# Altium integrated library relay.IntLib: 425 symbols (part 2 of 4)
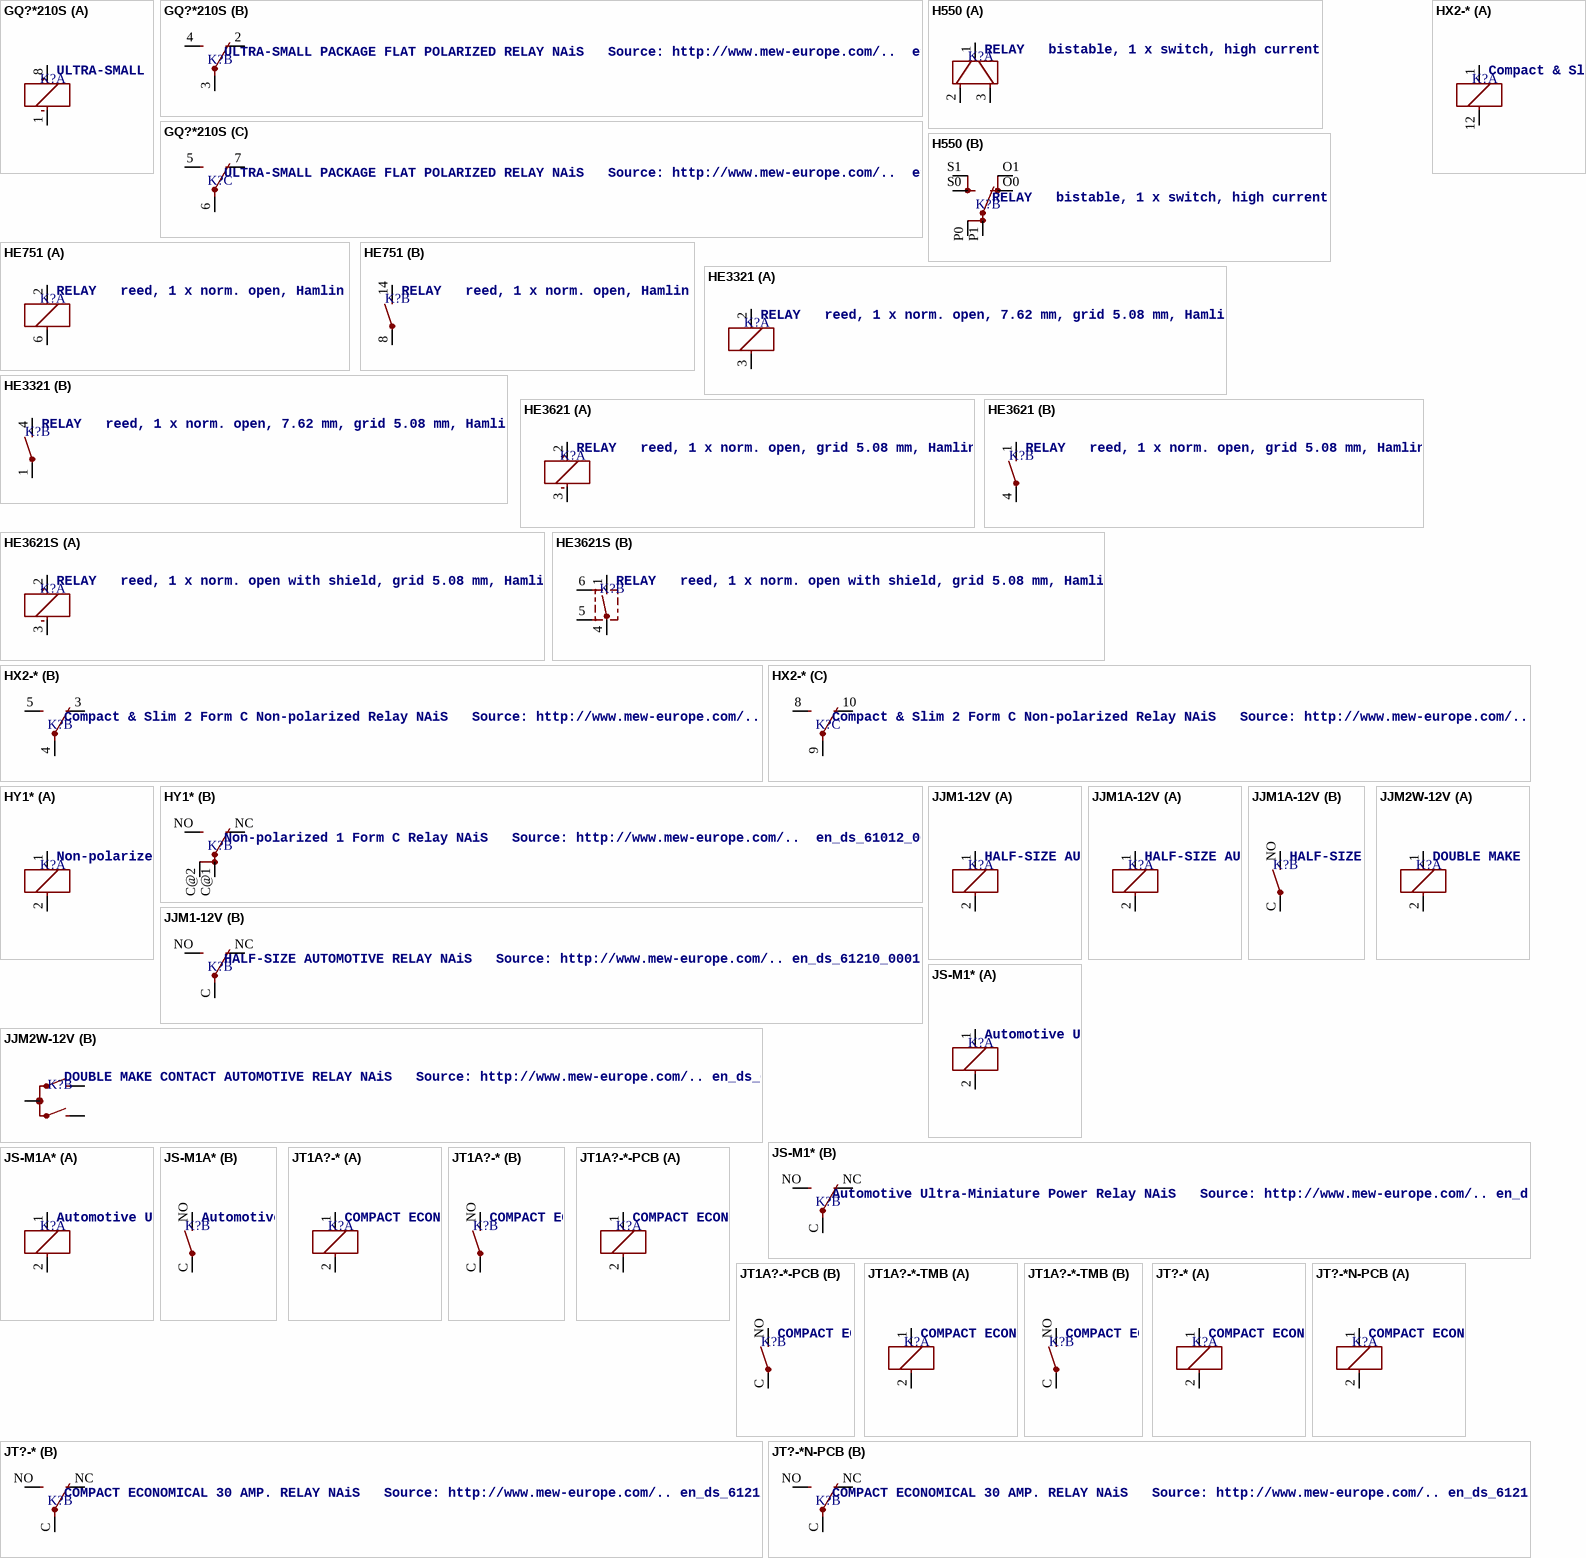
[diagram p39: symbols GQ?*210S to JT?-*N-PCB]

## JT?-*
designator K?, comment COMPACT ECONOMICAL 30 AMP. RELAY NAiS   Source: http://www.mew-europe.com/.. en_ds_61212_0000.pdf
OC_FARNELL: unknown; OC_NEWARK: unknown
footprint JT
part A pins: 1, 2
part B pins: C P, NC O, NO S

## JT?-*N-PCB
designator K?, comment COMPACT ECONOMICAL 30 AMP. RELAY NAiS   Source: http://www.mew-europe.com/.. en_ds_61212_0000.pdf
OC_FARNELL: unknown; OC_NEWARK: unknown
footprint JT-PCB
part A pins: 1, 2
part B pins: C P, NC O, NO S

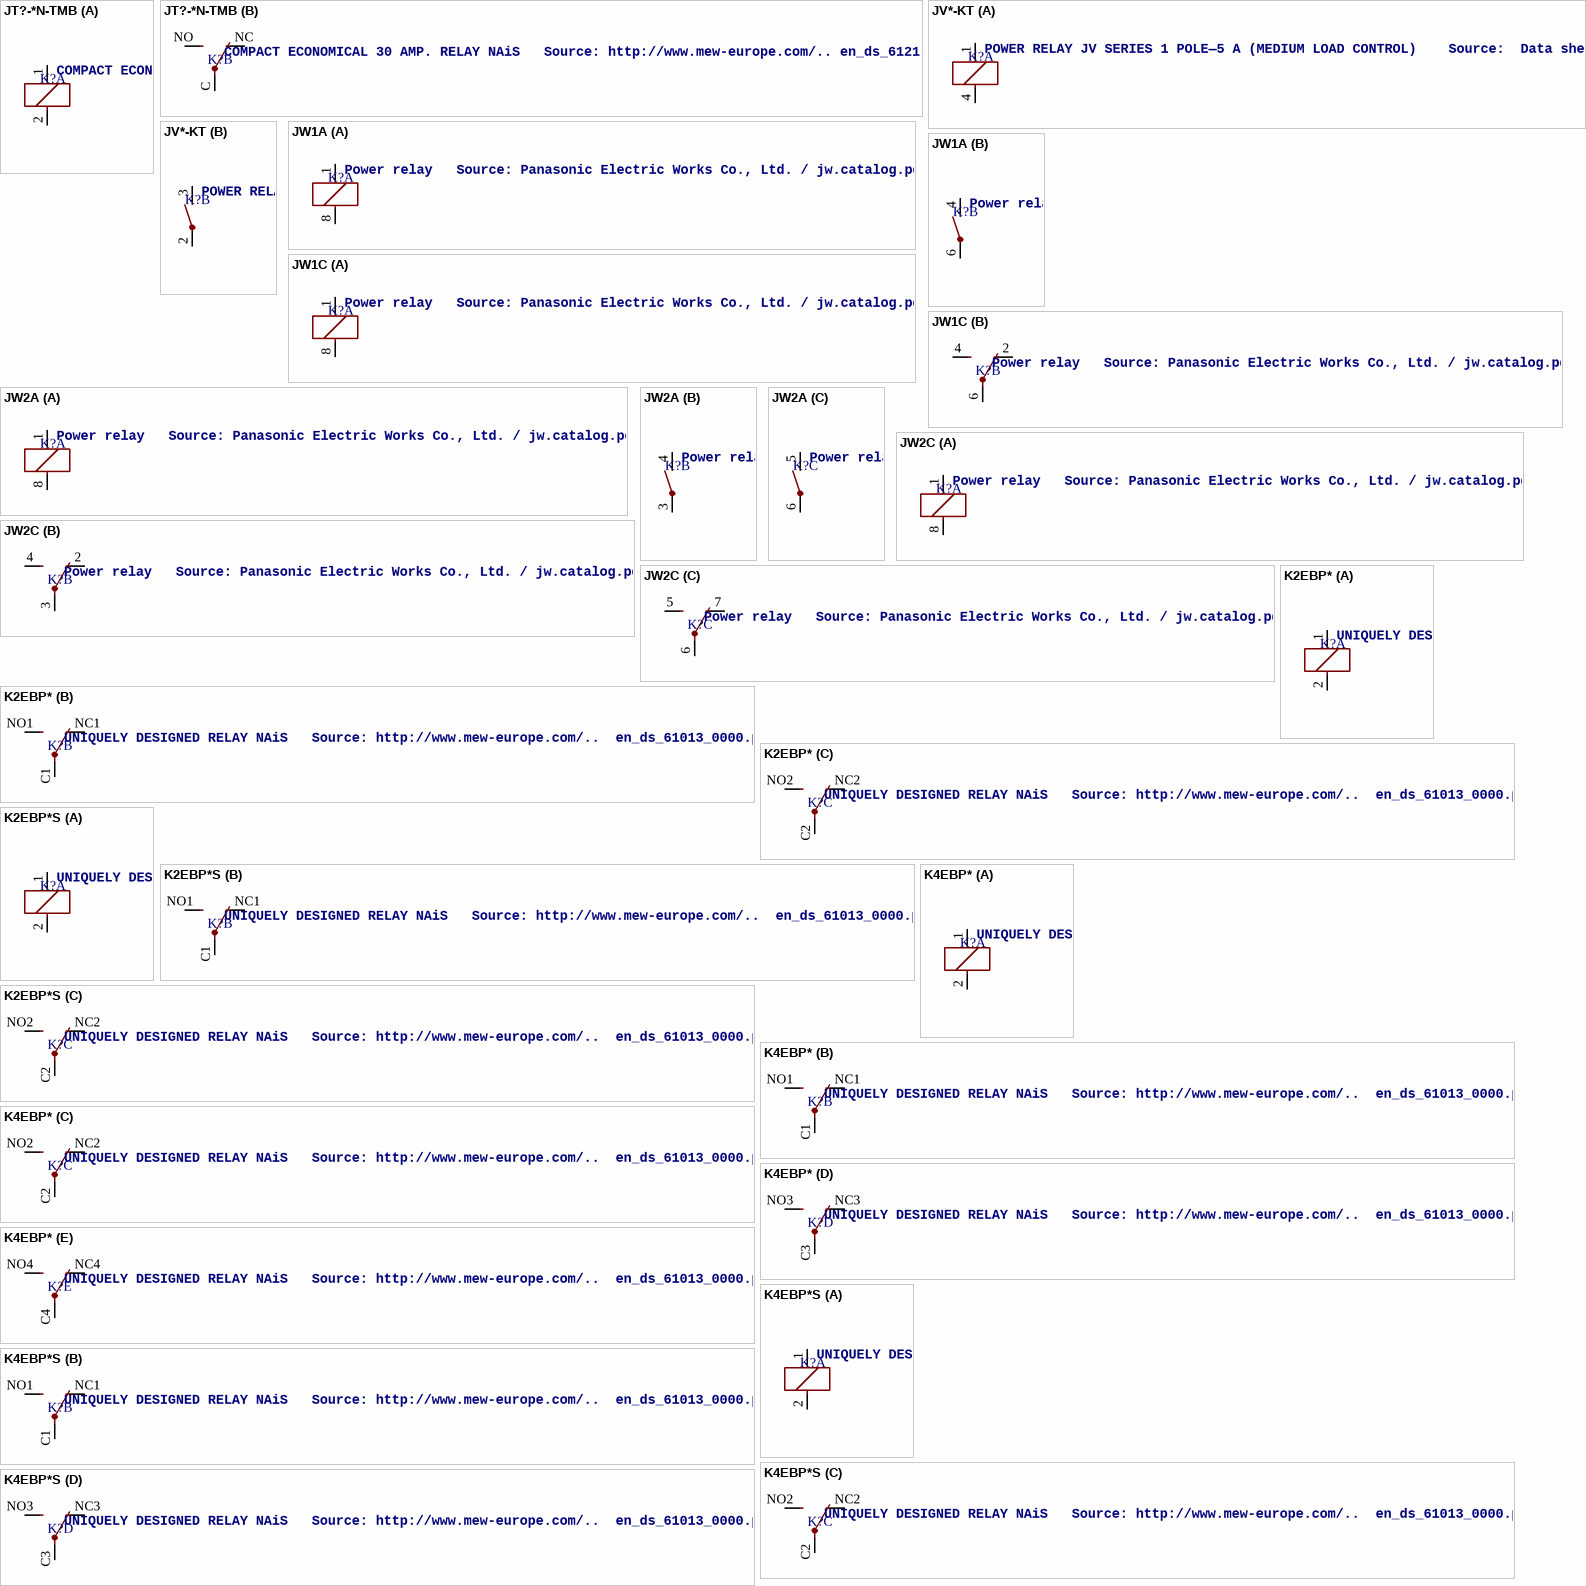
[diagram p14: symbols JT?-*N-TMB to K4EBP*S]

## JT?-*N-TMB
designator K?, comment COMPACT ECONOMICAL 30 AMP. RELAY NAiS   Source: http://www.mew-europe.com/.. en_ds_61212_0000.pdf
OC_FARNELL: unknown; OC_NEWARK: unknown
footprint JT-TMB
part A pins: 1, 2
part B pins: C P, NC O, NO S

## JV*-KT
designator K?, comment POWER RELAY JV SERIES 1 POLE—5 A (MEDIUM LOAD CONTROL)    Source:  Data sheet
footprint JV-KT
part A pins: 1, 4 2
part B pins: 2 P, 3 S

## JW1A
designator K?, comment Power relay   Source: Panasonic Electric Works Co., Ltd. / jw.catalog.pdf
footprint JW1A
part A pins: 1, 8 2
part B pins: 4 S, 6 P

## JW1C
designator K?, comment Power relay   Source: Panasonic Electric Works Co., Ltd. / jw.catalog.pdf
footprint JW1C
part A pins: 1, 8 2
part B pins: 2 O, 4 S, 6 P

## JW2A
designator K?, comment Power relay   Source: Panasonic Electric Works Co., Ltd. / jw.catalog.pdf
footprint JW2A
part A pins: 1, 8 2
part B pins: 3 P, 4 S
part C pins: 5 S, 6 P

## JW2C
designator K?, comment Power relay   Source: Panasonic Electric Works Co., Ltd. / jw.catalog.pdf
footprint JW2C
part A pins: 1, 8 2
part B pins: 2 O, 3 P, 4 S
part C pins: 5 S, 6 P, 7 O

## K2EBP*
designator K?, comment UNIQUELY DESIGNED RELAY NAiS   Source: http://www.mew-europe.com/..  en_ds_61013_0000.pdf
OC_FARNELL: unknown; OC_NEWARK: unknown
footprint K2EBP
part A pins: 1, 2
part B pins: C1 P, NC1 O, NO1 S
part C pins: C2 P, NC2 O, NO2 S

## K2EBP*S
designator K?, comment UNIQUELY DESIGNED RELAY NAiS   Source: http://www.mew-europe.com/..  en_ds_61013_0000.pdf
OC_FARNELL: unknown; OC_NEWARK: unknown
footprint K2-PS
part A pins: 1, 2
part B pins: C1 P, NC1 O, NO1 S
part C pins: C2 P, NC2 O, NO2 S

## K4EBP*
designator K?, comment UNIQUELY DESIGNED RELAY NAiS   Source: http://www.mew-europe.com/..  en_ds_61013_0000.pdf
OC_FARNELL: unknown; OC_NEWARK: unknown
footprint K4EBP
part A pins: 1, 2
part B pins: C1 P, NC1 O, NO1 S
part C pins: C2 P, NC2 O, NO2 S
part D pins: C3 P, NC3 O, NO3 S
part E pins: C4 P, NC4 O, NO4 S

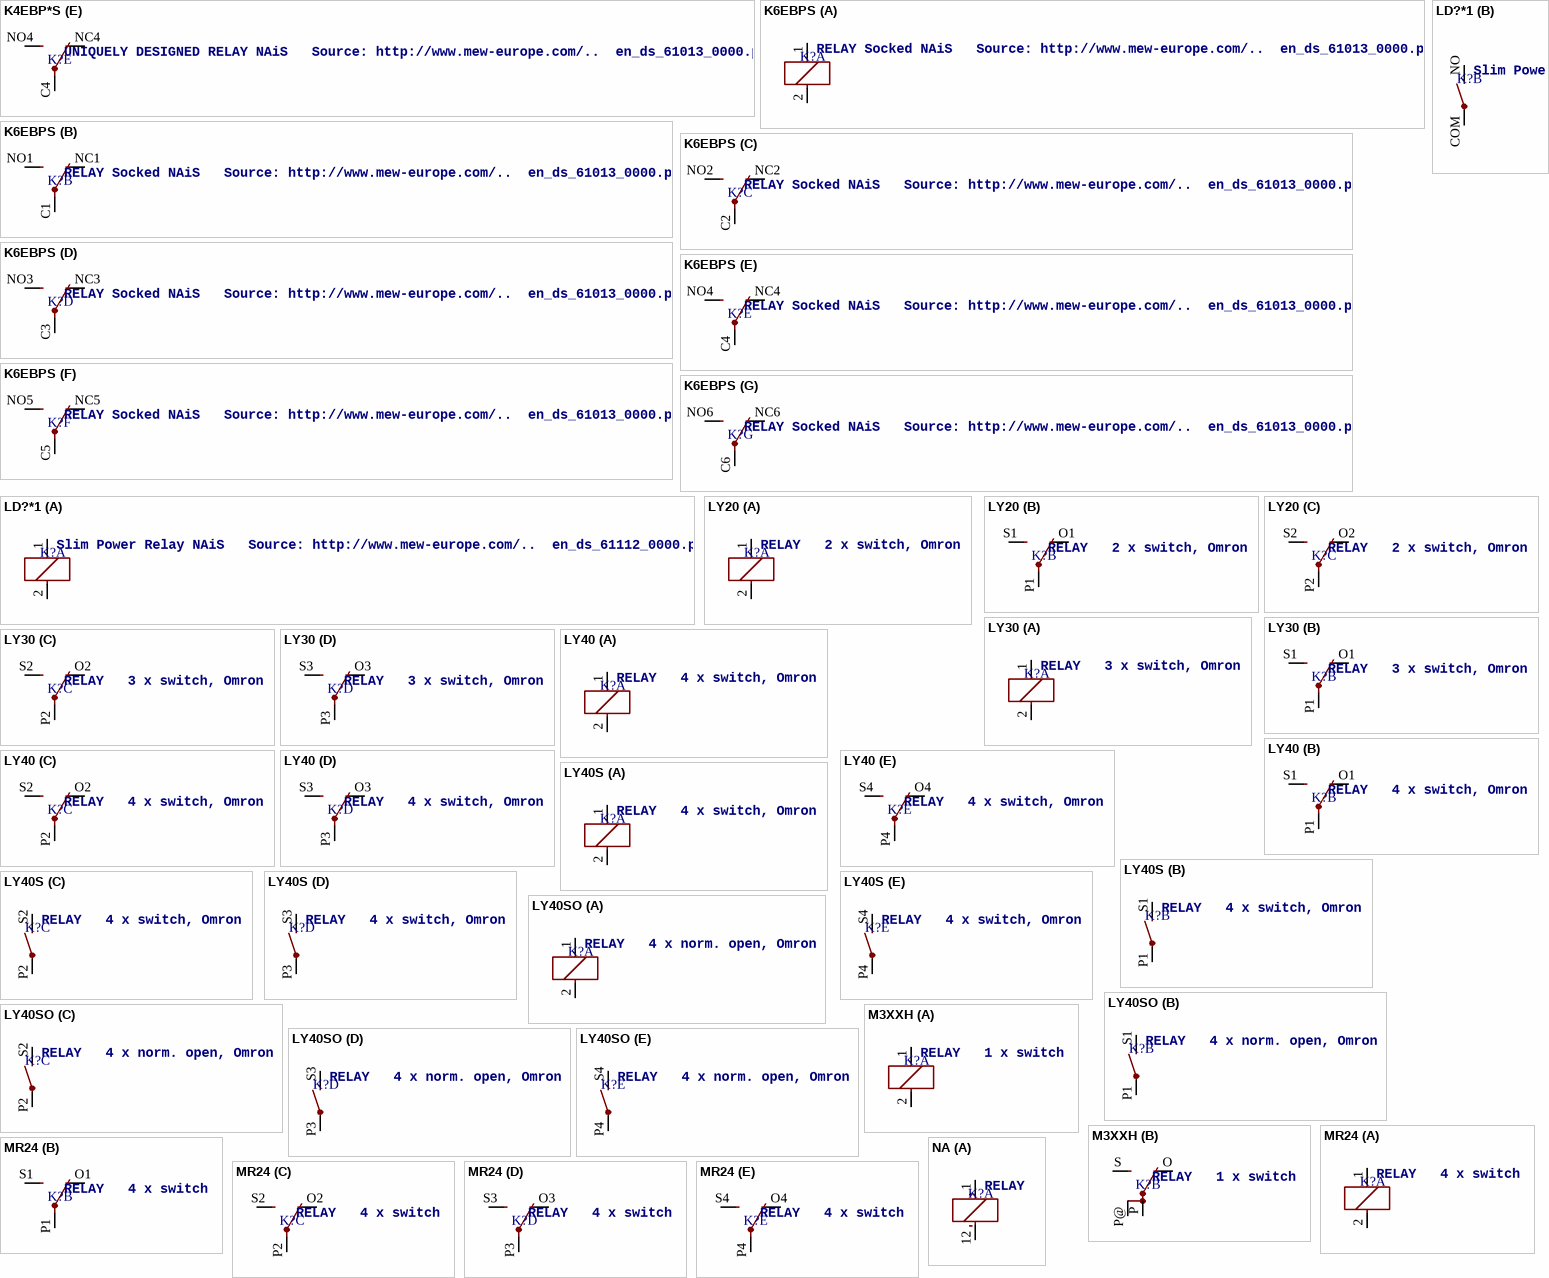
[diagram p15: symbols K4EBP*S to NA]

## K4EBP*S
designator K?, comment UNIQUELY DESIGNED RELAY NAiS   Source: http://www.mew-europe.com/..  en_ds_61013_0000.pdf
OC_FARNELL: unknown; OC_NEWARK: unknown
footprint K4-PS
part A pins: 1, 2
part B pins: C1 P, NC1 O, NO1 S
part C pins: C2 P, NC2 O, NO2 S
part D pins: C3 P, NC3 O, NO3 S
part E pins: C4 P, NC4 O, NO4 S

## K6EBPS
designator K?, comment RELAY Socked NAiS   Source: http://www.mew-europe.com/..  en_ds_61013_0000.pdf
OC_FARNELL: unknown; OC_NEWARK: unknown
footprint K6-PS
part A pins: 1, 2
part B pins: C1 P, NC1 O, NO1 S
part C pins: C2 P, NC2 O, NO2 S
part D pins: C3 P, NC3 O, NO3 S
part E pins: C4 P, NC4 O, NO4 S
part F pins: C5 P, NC5 O, NO5 S
part G pins: C6 P, NC6 O, NO6 S

## LD?*1
designator K?, comment Slim Power Relay NAiS   Source: http://www.mew-europe.com/..  en_ds_61112_0000.pdf
MPN: ALD112; MF: FARNELL; OC_FARNELL: 3727154; OC_NEWARK: unknown; OC_FARNELL: unknown; OC_FARNELL: 3727166; OC_NEWARK: 70C6003; OC_FARNELL: 3727178
footprint LD
part A pins: 1, 2
part B pins: COM P, NO S

## LY20
designator K?, comment RELAY   2 x switch, Omron
OC_FARNELL: unknown; OC_NEWARK: unknown
footprint LY20
part A pins: 1, 2
part B pins: O1 O, P1 P, S1 S
part C pins: O2 O, P2 P, S2 S

## LY30
designator K?, comment RELAY   3 x switch, Omron
OC_FARNELL: unknown; OC_NEWARK: unknown
footprint LY30
part A pins: 1, 2
part B pins: O1 O, P1 P, S1 S
part C pins: O2 O, P2 P, S2 S
part D pins: O3 O, P3 P, S3 S

## LY40
designator K?, comment RELAY   4 x switch, Omron
OC_FARNELL: unknown; OC_NEWARK: unknown
footprint LY40
part A pins: 1, 2
part B pins: O1 O, P1 P, S1 S
part C pins: O2 O, P2 P, S2 S
part D pins: O3 O, P3 P, S3 S
part E pins: O4 O, P4 P, S4 S

## LY40S
designator K?, comment RELAY   4 x switch, Omron
OC_FARNELL: unknown; OC_NEWARK: unknown
footprint LY40S
part A pins: 1, 2
part B pins: P1 P, S1 S
part C pins: P2 P, S2 S
part D pins: P3 P, S3 S
part E pins: P4 P, S4 S

## LY40SO
designator K?, comment RELAY   4 x norm. open, Omron
OC_FARNELL: unknown; OC_NEWARK: unknown
footprint LY40SO
part A pins: 1, 2
part B pins: P1 P, S1 S
part C pins: P2 P, S2 S
part D pins: P3 P, S3 S
part E pins: P4 P, S4 S

## M3XXH
designator K?, comment RELAY   1 x switch
OC_FARNELL: unknown; OC_NEWARK: unknown
footprint M3XXH
part A pins: 1, 2
part B pins: O, P, P@ P@1, S

## MR24
designator K?, comment RELAY   4 x switch
OC_FARNELL: unknown; OC_NEWARK: unknown
footprint MR24
part A pins: 1, 2
part B pins: O1 O, P1 P, S1 S
part C pins: O2 O, P2 P, S2 S
part D pins: O3 O, P3 P, S3 S
part E pins: O4 O, P4 P, S4 S

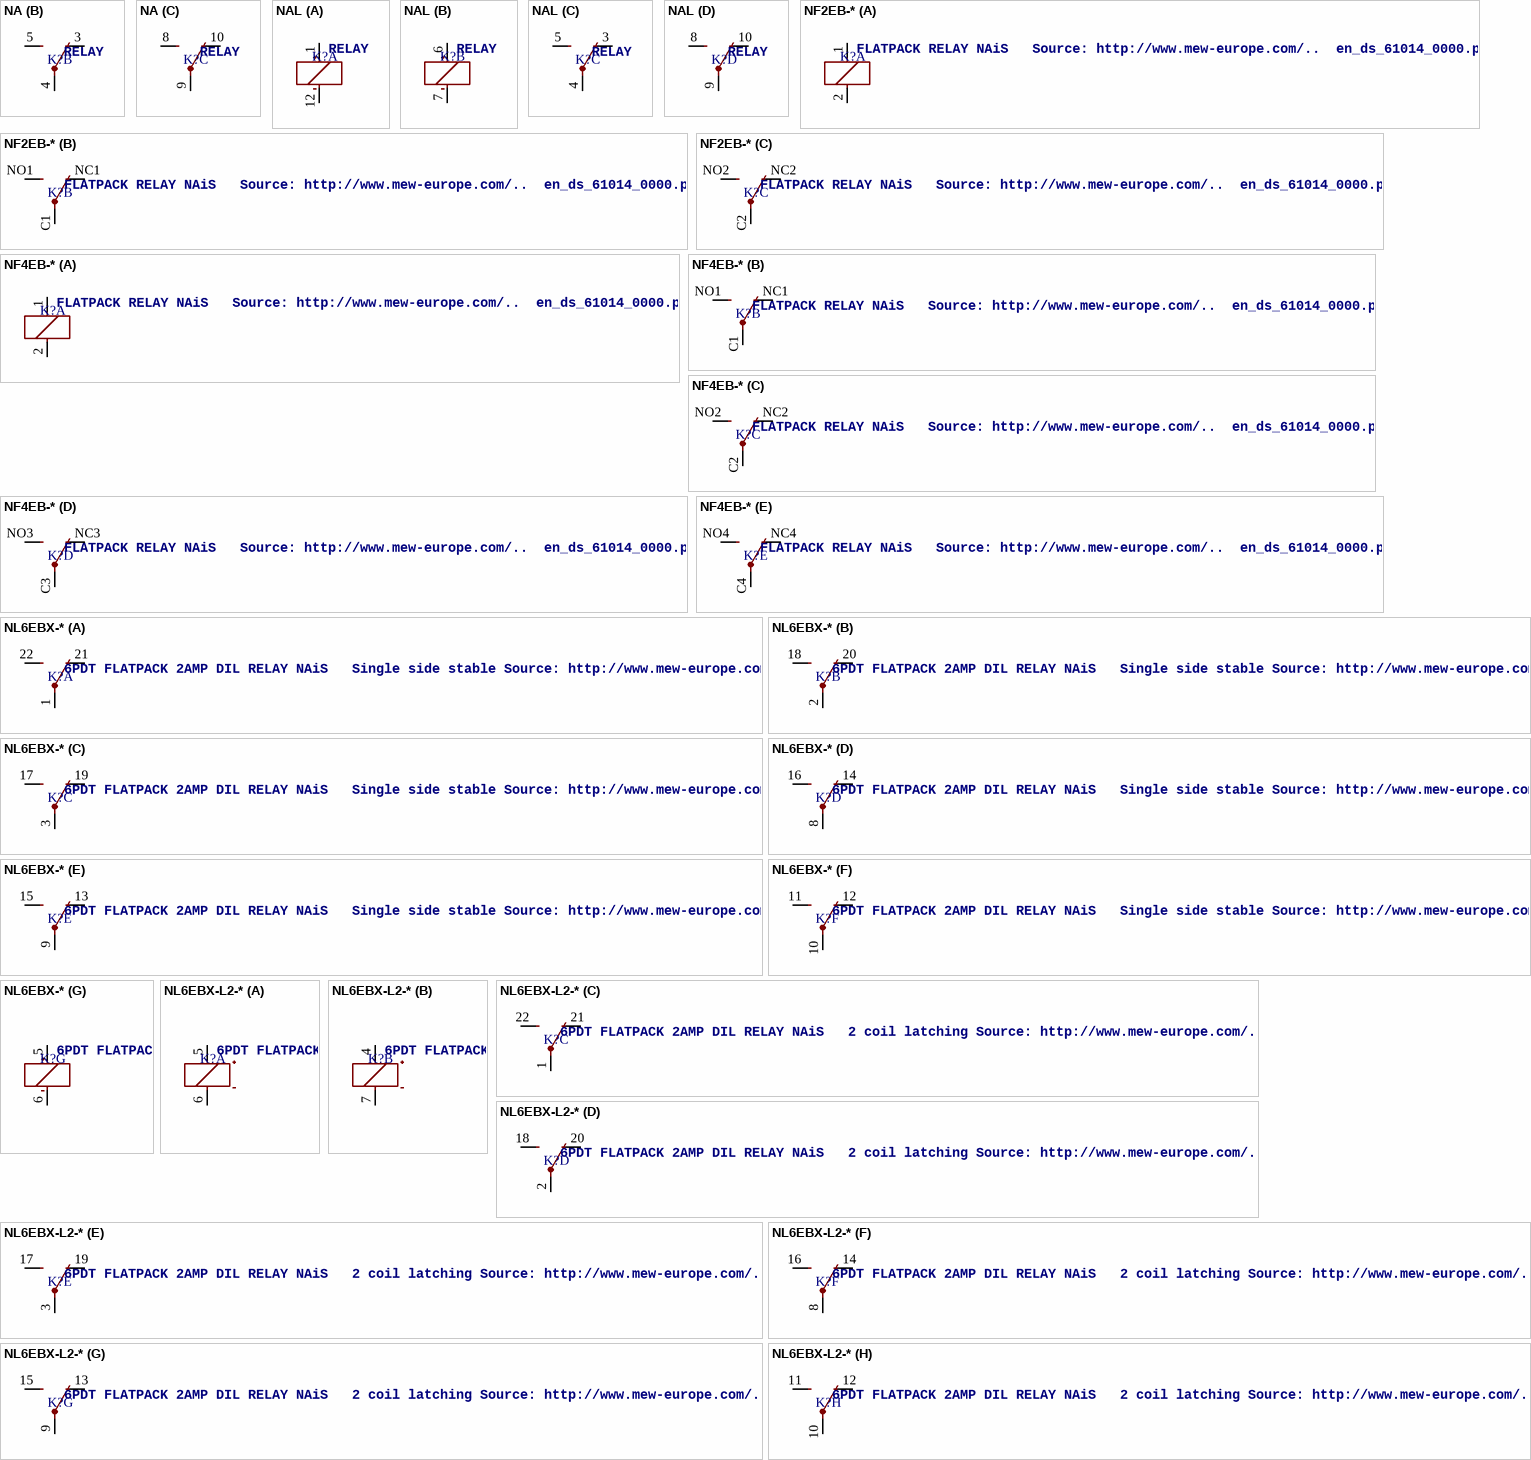
[diagram p16: symbols NA to NL6EBX-L2-*]

## NA
designator K?, comment RELAY
OC_FARNELL: unknown; OC_NEWARK: unknown
footprint NA
part A pins: 1 +, 12 -
part B pins: 3 O, 4 P, 5 S
part C pins: 8 S, 9 P, 10 O

## NAL
designator K?, comment RELAY
OC_FARNELL: unknown; OC_NEWARK: unknown
footprint NAL
part A pins: 1 +, 12 -
part B pins: 6 +, 7 -
part C pins: 3 O, 4 P, 5 S
part D pins: 8 S, 9 P, 10 O

## NF2EB-*
designator K?, comment FLATPACK RELAY NAiS   Source: http://www.mew-europe.com/..  en_ds_61014_0000.pdf
MPN: NF2EB-12V; MPN: NF2EB-24V; MPN: NF2EB-5V; MPN: NF2EB-6V; OC_FARNELL: 1200946; OC_NEWARK: 13P5536; OC_FARNELL: 1175714; OC_NEWARK: 13P5537; OC_FARNELL: unknown; OC_NEWARK: unknown; OC_FARNELL: 1703747; OC_NEWARK: 13P5538; OC_NEWARK: 13P5539
footprint NF2
part A pins: 1, 2
part B pins: C1 P, NC1 O, NO1 S
part C pins: C2 P, NC2 O, NO2 S

## NF4EB-*
designator K?, comment FLATPACK RELAY NAiS   Source: http://www.mew-europe.com/..  en_ds_61014_0000.pdf
MPN: NF4EB-12V; MPN: NF4EB-24V; MPN: NF4EB-48V; MPN: NF4EB-5V; MPN: NF4EB-6V; MF: AROMAT/ MATSUSHITA; OC_FARNELL: 1175715; OC_NEWARK: 13P5540; OC_FARNELL: 1373470; OC_NEWARK: 13P5541; OC_FARNELL: unknown; OC_NEWARK: 13P5542; OC_FARNELL: 1200947; OC_NEWARK: 13P5543; OC_NEWARK: 46F5739
footprint NF4
part A pins: 1, 2
part B pins: C1 P, NC1 O, NO1 S
part C pins: C2 P, NC2 O, NO2 S
part D pins: C3 P, NC3 O, NO3 S
part E pins: C4 P, NC4 O, NO4 S

## NL6EBX-*
designator K?, comment 6PDT FLATPACK 2AMP DIL RELAY NAiS   Single side stable Source: http://www.mew-europe.com/..  en_ds_61014_0003.pdf
OC_FARNELL: unknown; OC_NEWARK: unknown
footprint NL6EBX
part A pins: 1 P, 21 O, 22 S
part B pins: 2 P, 18 S, 20 O
part C pins: 3 P, 17 S, 19 O
part D pins: 8 P, 14 O, 16 S
part E pins: 9 P, 13 O, 15 S
part F pins: 10 P, 11 S, 12 O
part G pins: 5 +, 6 -

## NL6EBX-L2-*
designator K?, comment 6PDT FLATPACK 2AMP DIL RELAY NAiS   2 coil latching Source: http://www.mew-europe.com/..  en_ds_61014_0003.pdf
OC_FARNELL: unknown; OC_NEWARK: unknown
footprint NL6EBX-L2
part A pins: 5 +, 6 -
part B pins: 4 +, 7 -
part C pins: 1 P, 21 O, 22 S
part D pins: 2 P, 18 S, 20 O
part E pins: 3 P, 17 S, 19 O
part F pins: 8 P, 14 O, 16 S
part G pins: 9 P, 13 O, 15 S
part H pins: 10 P, 11 S, 12 O

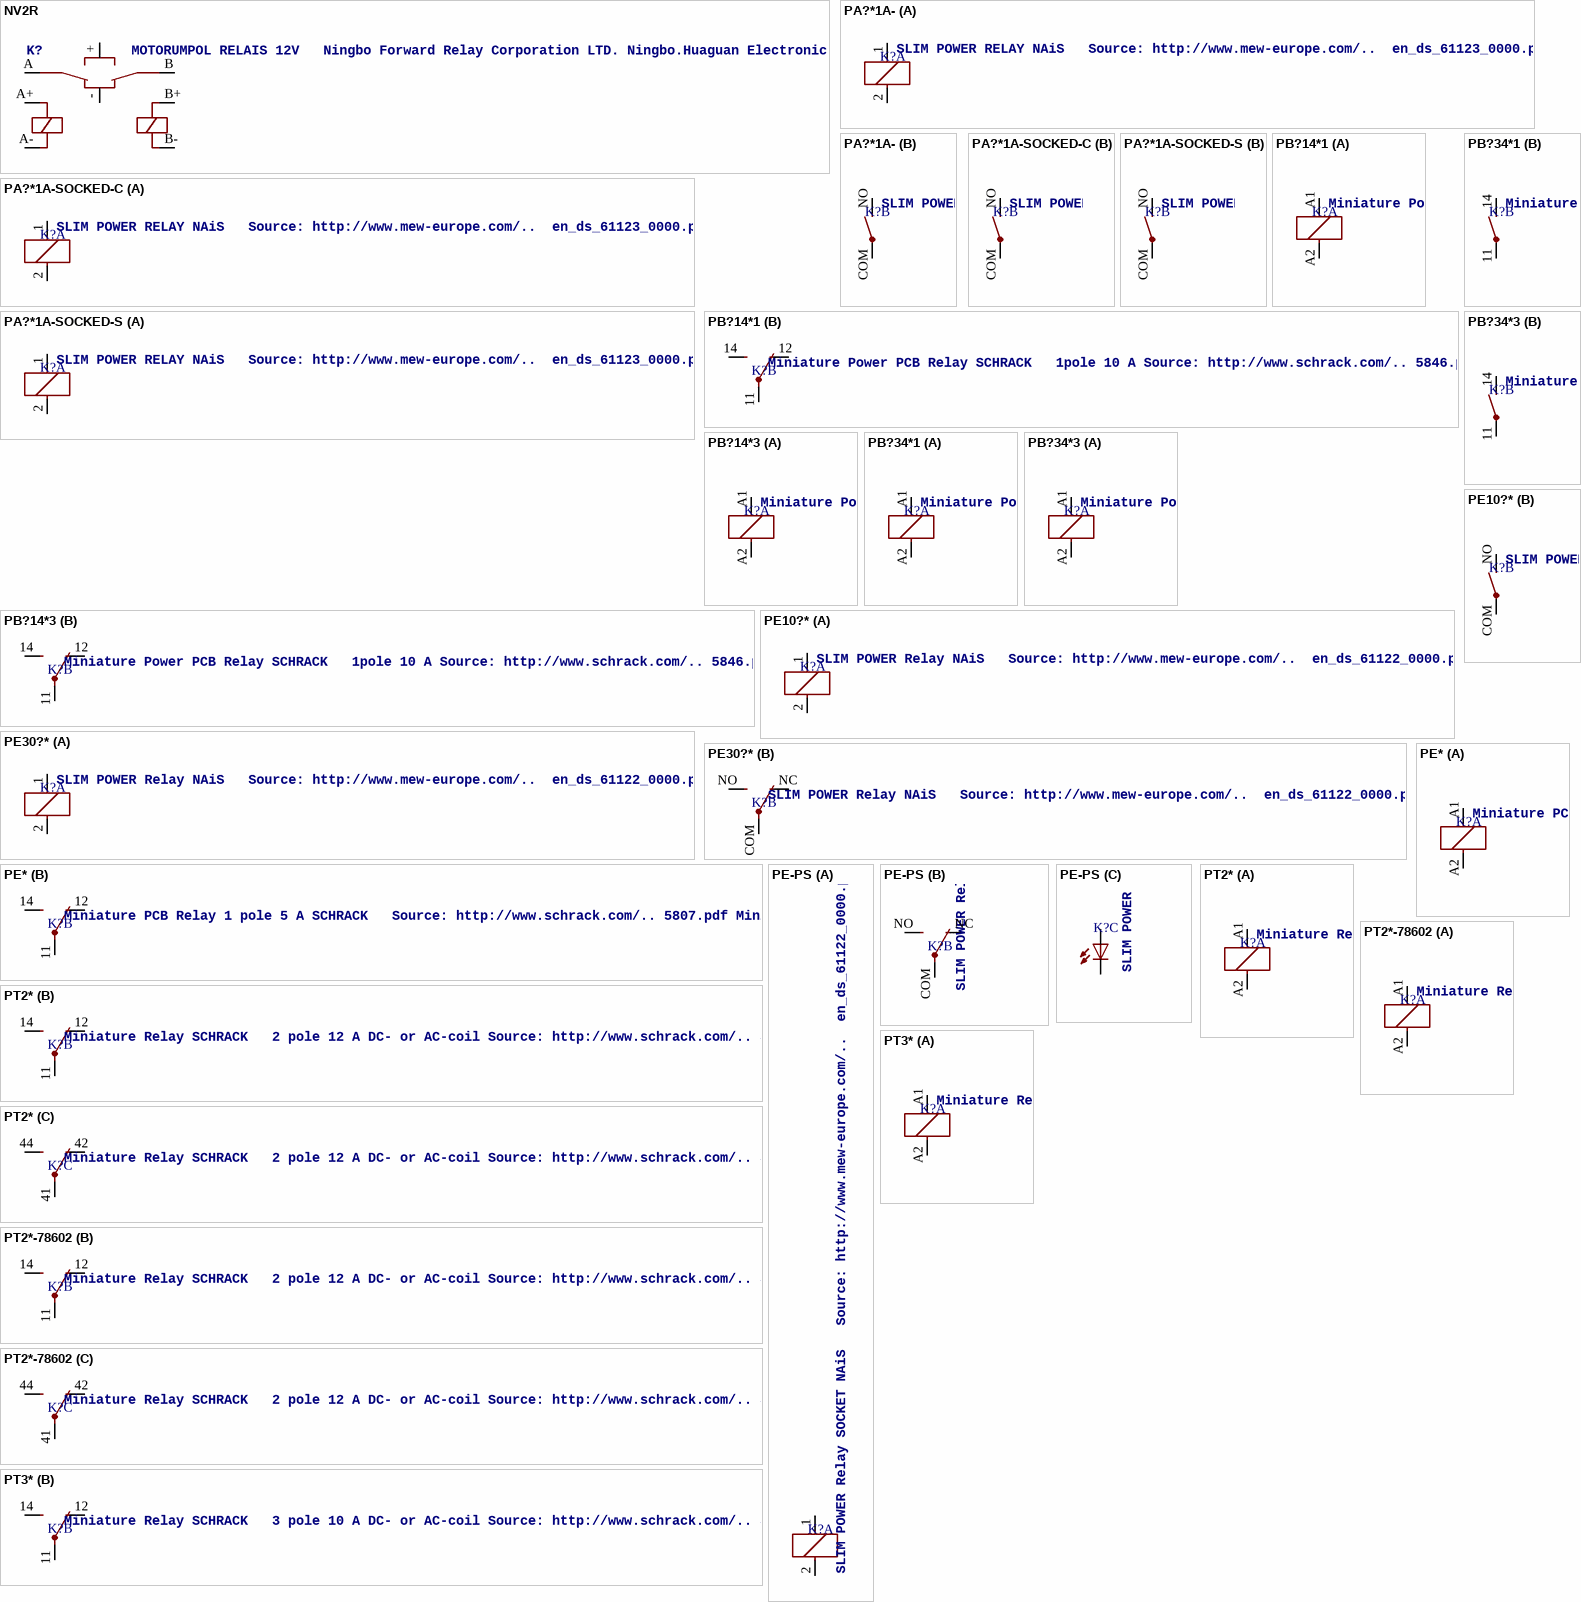
[diagram p17: symbols NV2R to PT3*]

## NV2R
designator K?, comment MOTORUMPOL RELAIS 12V   Ningbo Forward Relay Corporation LTD. Ningbo.Huaguan Electronics Corporation LTD.   Source: http://www.dblectro.com/site/pdf/NV2R.pdf   http://www2.produktinfo.conrad.com/datenblaetter/500000-524999/505013-da-01-de-Motorumpolrelais_12V.pdf Elli-Echo ER20T-S-DC12V - 20A/14VDC Conrad Nr.: 505013 - 62
OC_FARNELL: unknown; OC_NEWARK: unknown
footprint NV2R
pins: +, -, A, A+, A-, B, B+, B-

## PA?*1A-
designator K?, comment SLIM POWER RELAY NAiS   Source: http://www.mew-europe.com/..  en_ds_61123_0000.pdf
MPN: PA1A-12V-Y1; MPN: PA1A-18V; MPN: PA1A-24V; MF: AROMAT/ MATSUSHITA; OC_FARNELL: 910363; OC_NEWARK: 82H8374; OC_FARNELL: unknown; OC_NEWARK: 92B3524; OC_FARNELL: 910375; OC_NEWARK: 13P6167; OC_NEWARK: unknown
footprint PA
part A pins: 1, 2
part B pins: COM P, NO S

## PA?*1A-SOCKED-C
designator K?, comment SLIM POWER RELAY NAiS   Source: http://www.mew-europe.com/..  en_ds_61123_0000.pdf
OC_FARNELL: unknown; OC_NEWARK: unknown
footprint PA-CLI-SOCKET
part A pins: 1, 2
part B pins: COM P, NO S

## PA?*1A-SOCKED-S
designator K?, comment SLIM POWER RELAY NAiS   Source: http://www.mew-europe.com/..  en_ds_61123_0000.pdf
OC_FARNELL: unknown; OC_NEWARK: unknown
footprint PA-STD-SOCKET
part A pins: 1, 2
part B pins: COM P, NO S

## PB?14*1
designator K?, comment Miniature Power PCB Relay SCHRACK   1pole 10 A Source: http://www.schrack.com/.. 5846.pdf
MPN: PB114006; MPN: PB114012; MPN: PB114024; MF: TYCO ELECTRONICS; OC_FARNELL: 1175076; OC_NEWARK: 85C1482; OC_FARNELL: 1175077; OC_NEWARK: 34K8593; OC_FARNELL: 1175078; OC_NEWARK: 34K8594
footprint PB
part A pins: A1 1, A2 2
part B pins: 11 P, 12 O, 14 S

## PB?14*3
designator K?, comment Miniature Power PCB Relay SCHRACK   1pole 10 A Source: http://www.schrack.com/.. 5846.pdf
OC_FARNELL: unknown; OC_NEWARK: unknown
footprint PB
part A pins: A1 1, A2 2
part B pins: 11 P, 12 O, 14 S

## PB?34*1
designator K?, comment Miniature Power PCB Relay SCHRACK   1pole 10 A Source: http://www.schrack.com/.. 5846.pdf
OC_FARNELL: unknown; OC_NEWARK: unknown
footprint PB
part A pins: A1 1, A2 2
part B pins: 11 P, 14 S

## PB?34*3
designator K?, comment Miniature Power PCB Relay SCHRACK   1pole 10 A Source: http://www.schrack.com/.. 5846.pdf
OC_FARNELL: unknown; OC_NEWARK: unknown
footprint PB
part A pins: A1 1, A2 2
part B pins: 11 P, 14 S

## PE10?*
designator K?, comment SLIM POWER Relay NAiS   Source: http://www.mew-europe.com/..  en_ds_61122_0000.pdf
MPN: APE10006; MPN: APE10012; MPN: APE10018; MPN: APE10024; MPN: APE10048; MPN: APE1004H; MPN: APE10060; MPN: APE10106; MPN: APE10112; MPN: APE10118; MPN: APE10124; MPN: APE10148; MPN: APE1014H; MPN: APE10160; OC_FARNELL: unknown; OC_NEWARK: unknown; OC_NEWARK: 11N2525; OC_NEWARK: 11N2526; OC_NEWARK: 11N2527; OC_NEWARK: 11N2528; OC_NEWARK: 27M3556; OC_NEWARK: 11N2529; OC_NEWARK: 11N2530; OC_NEWARK: 11N2531; OC_NEWARK: 11N2532; OC_NEWARK: 11N2533; OC_NEWARK: 11N2534; OC_NEWARK: 11N2536; OC_NEWARK: 11N2535; OC_NEWARK: 11N2537
footprint PE-FORM-A
part A pins: 1, 2
part B pins: COM P, NO S

## PE30?*
designator K?, comment SLIM POWER Relay NAiS   Source: http://www.mew-europe.com/..  en_ds_61122_0000.pdf
MPN: APE30006; MPN: APE30012; MPN: APE30018; MPN: APE30024; MPN: APE30048; MPN: APE3004H; MPN: APE30060; MPN: APE30112; MPN: APE30118; MPN: APE30124; MPN: APE30148; MPN: APE3014H; MPN: APE30160; MF: AROMAT/ MATSUSHITA; OC_FARNELL: unknown; OC_NEWARK: unknown; OC_NEWARK: 11N2538; OC_NEWARK: 37J1097; OC_NEWARK: 11N2539; OC_FARNELL: 1703738; OC_NEWARK: 01H7899; OC_NEWARK: 11N2540; OC_NEWARK: 55M0343; OC_NEWARK: 13J1294; OC_NEWARK: 13P0932; OC_NEWARK: 11N2542; OC_NEWARK: 13P0933; OC_NEWARK: 11N2543; OC_NEWARK: 36K1690; OC_NEWARK: 11N2544
footprint PE-FORM-C
part A pins: 1, 2
part B pins: COM P, NC O, NO S

## PE*
designator K?, comment Miniature PCB Relay 1 pole 5 A SCHRACK   Source: http://www.schrack.com/.. 5807.pdf Miniature PCB Relay bistable 1pole 5 A, polarized bistable version Source: http://www.schrack.com/.. 5808.pdf
OC_FARNELL: unknown; OC_NEWARK: unknown
footprint PE
part A pins: A1 1, A2 2
part B pins: 11 P, 12 O, 14 S

## PE-PS
designator K?, comment SLIM POWER Relay SOCKET NAiS   Source: http://www.mew-europe.com/..  en_ds_61122_0000.pdf
OC_FARNELL: unknown; OC_NEWARK: unknown
footprint PE-SOCKET
part A pins: 1, 2
part B pins: COM P, NC O, NO S
part C pins: +LED A, -LED C

## PT2*
designator K?, comment Miniature Relay SCHRACK   2 pole 12 A DC- or AC-coil Source: http://www.schrack.com/.. 5823.pdf Socked 78602 Source: http://www.schrack.com/.. 5836.pdf
MPN: PT271615; MF: TYCO ELECTRONICS; OC_FARNELL: unknown; OC_NEWARK: unknown; OC_NEWARK: 96H9720
footprint PT-2
part A pins: A1 1, A2 2
part B pins: 11 P, 12 O, 14 S
part C pins: 41 P, 42 O, 44 S

## PT2*-78602
designator K?, comment Miniature Relay SCHRACK   2 pole 12 A DC- or AC-coil Source: http://www.schrack.com/.. 5823.pdf Socked 78602 Source: http://www.schrack.com/.. 5836.pdf
OC_FARNELL: unknown; OC_NEWARK: unknown
footprint PT78602
part A pins: A1 1, A2 2
part B pins: 11 P, 12 O, 14 S
part C pins: 41 P, 42 O, 44 S

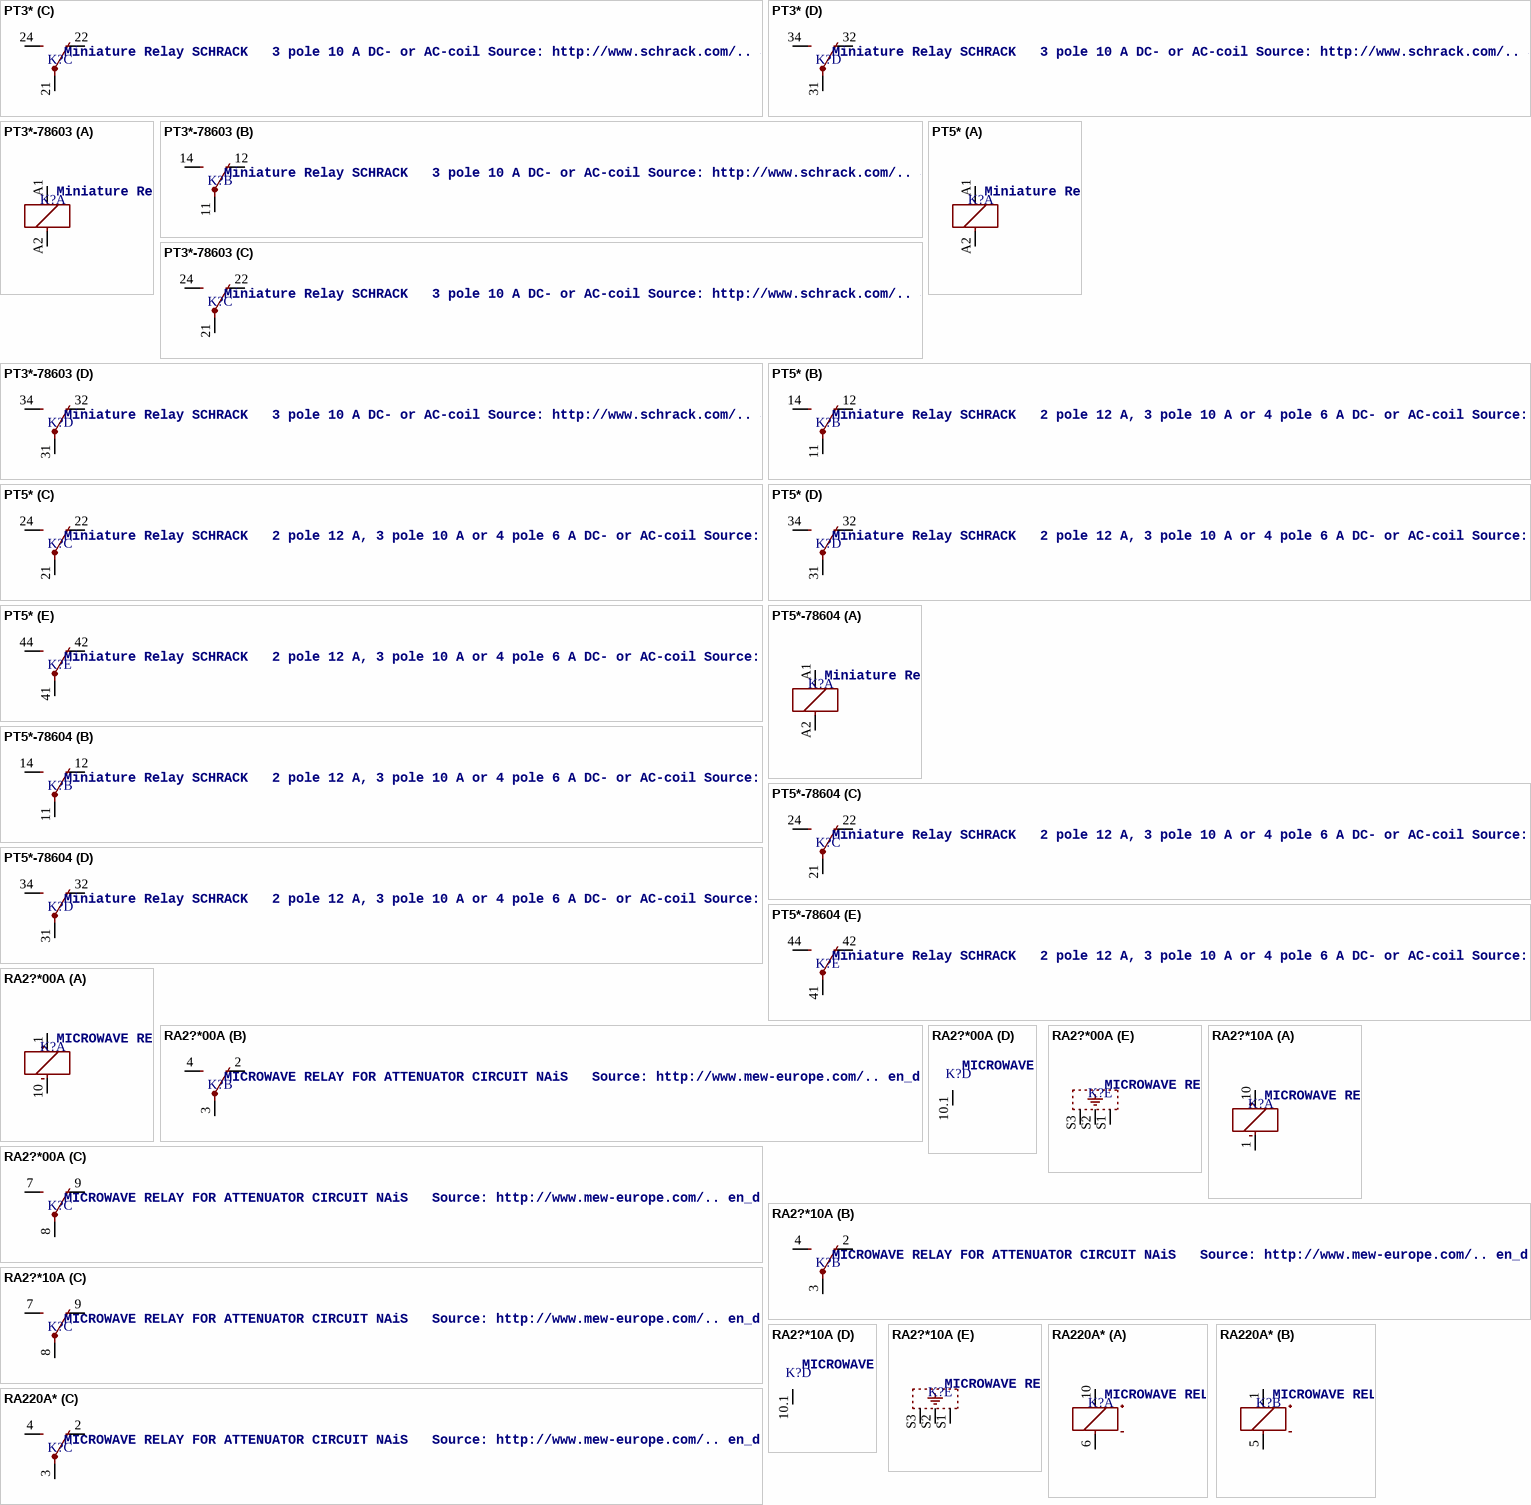
[diagram p18: symbols PT3* to RA220A*]

## PT3*
designator K?, comment Miniature Relay SCHRACK   3 pole 10 A DC- or AC-coil Source: http://www.schrack.com/.. 5823.pdf Socked 78603 Source: http://www.schrack.com/.. 5836.pdf
OC_FARNELL: unknown; OC_NEWARK: unknown
footprint PT-3
part A pins: A1 1, A2 2
part B pins: 11 P, 12 O, 14 S
part C pins: 21 P, 22 O, 24 S
part D pins: 31 P, 32 O, 34 S

## PT3*-78603
designator K?, comment Miniature Relay SCHRACK   3 pole 10 A DC- or AC-coil Source: http://www.schrack.com/.. 5823.pdf Socked 78603 Source: http://www.schrack.com/.. 5836.pdf
OC_FARNELL: unknown; OC_NEWARK: unknown
footprint PT78603
part A pins: A1 1, A2 2
part B pins: 11 P, 12 O, 14 S
part C pins: 21 P, 22 O, 24 S
part D pins: 31 P, 32 O, 34 S

## PT5*
designator K?, comment Miniature Relay SCHRACK   2 pole 12 A, 3 pole 10 A or 4 pole 6 A DC- or AC-coil Source: http://www.schrack.com/.. 5823.pdf Socked 78604 Source: http://www.schrack.com/.. 5836.pdf
MPN: PT571524; MPN: PT571615; MPN: PT571730; MF: FARNELL; OC_FARNELL: unknown; OC_NEWARK: unknown; OC_FARNELL: 3072836; OC_NEWARK: 08J0830; OC_FARNELL: 3072990; OC_NEWARK: 85H0667; OC_FARNELL: 3073014; OC_NEWARK: 18J8266
footprint PT-4
part A pins: A1 1, A2 2
part B pins: 11 P, 12 O, 14 S
part C pins: 21 P, 22 O, 24 S
part D pins: 31 P, 32 O, 34 S
part E pins: 41 P, 42 O, 44 S

## PT5*-78604
designator K?, comment Miniature Relay SCHRACK   2 pole 12 A, 3 pole 10 A or 4 pole 6 A DC- or AC-coil Source: http://www.schrack.com/.. 5823.pdf Socked 78604 Source: http://www.schrack.com/.. 5836.pdf
OC_FARNELL: unknown; OC_NEWARK: unknown
footprint PT78604
part A pins: A1 1, A2 2
part B pins: 11 P, 12 O, 14 S
part C pins: 21 P, 22 O, 24 S
part D pins: 31 P, 32 O, 34 S
part E pins: 41 P, 42 O, 44 S

## RA2?*00A
designator K?, comment MICROWAVE RELAY FOR ATTENUATOR CIRCUIT NAiS   Source: http://www.mew-europe.com/.. en_ds_61308_0000.pdf
MPN: ARA200A03; OC_FARNELL: unknown; OC_NEWARK: 13P1235; OC_NEWARK: unknown
footprint RA
part A pins: 1 +, 10 -
part B pins: 2 O, 3 P, 4 S
part C pins: 7 S, 8 P, 9 O
part D pins: 10.1 -
part E pins: S1 SH@3, S2 SH@2, S3 SH@1

## RA2?*10A
designator K?, comment MICROWAVE RELAY FOR ATTENUATOR CIRCUIT NAiS   Source: http://www.mew-europe.com/.. en_ds_61308_0000.pdf
MPN: ARA210A05; MPN: ARA210A06; MPN: ARA210A12; MPN: ARA210A4H; MF: AROMAT/ MATSUSHITA; OC_FARNELL: unknown; OC_NEWARK: unknown; OC_NEWARK: 10C4091; OC_NEWARK: 10C4092; OC_NEWARK: 64K3073; OC_NEWARK: 64K3074
footprint RA-1COIL
part A pins: 1 -, 10 +
part B pins: 2 O, 3 P, 4 S
part C pins: 7 S, 8 P, 9 O
part D pins: 10.1 -
part E pins: S1 SH@3, S2 SH@2, S3 SH@1

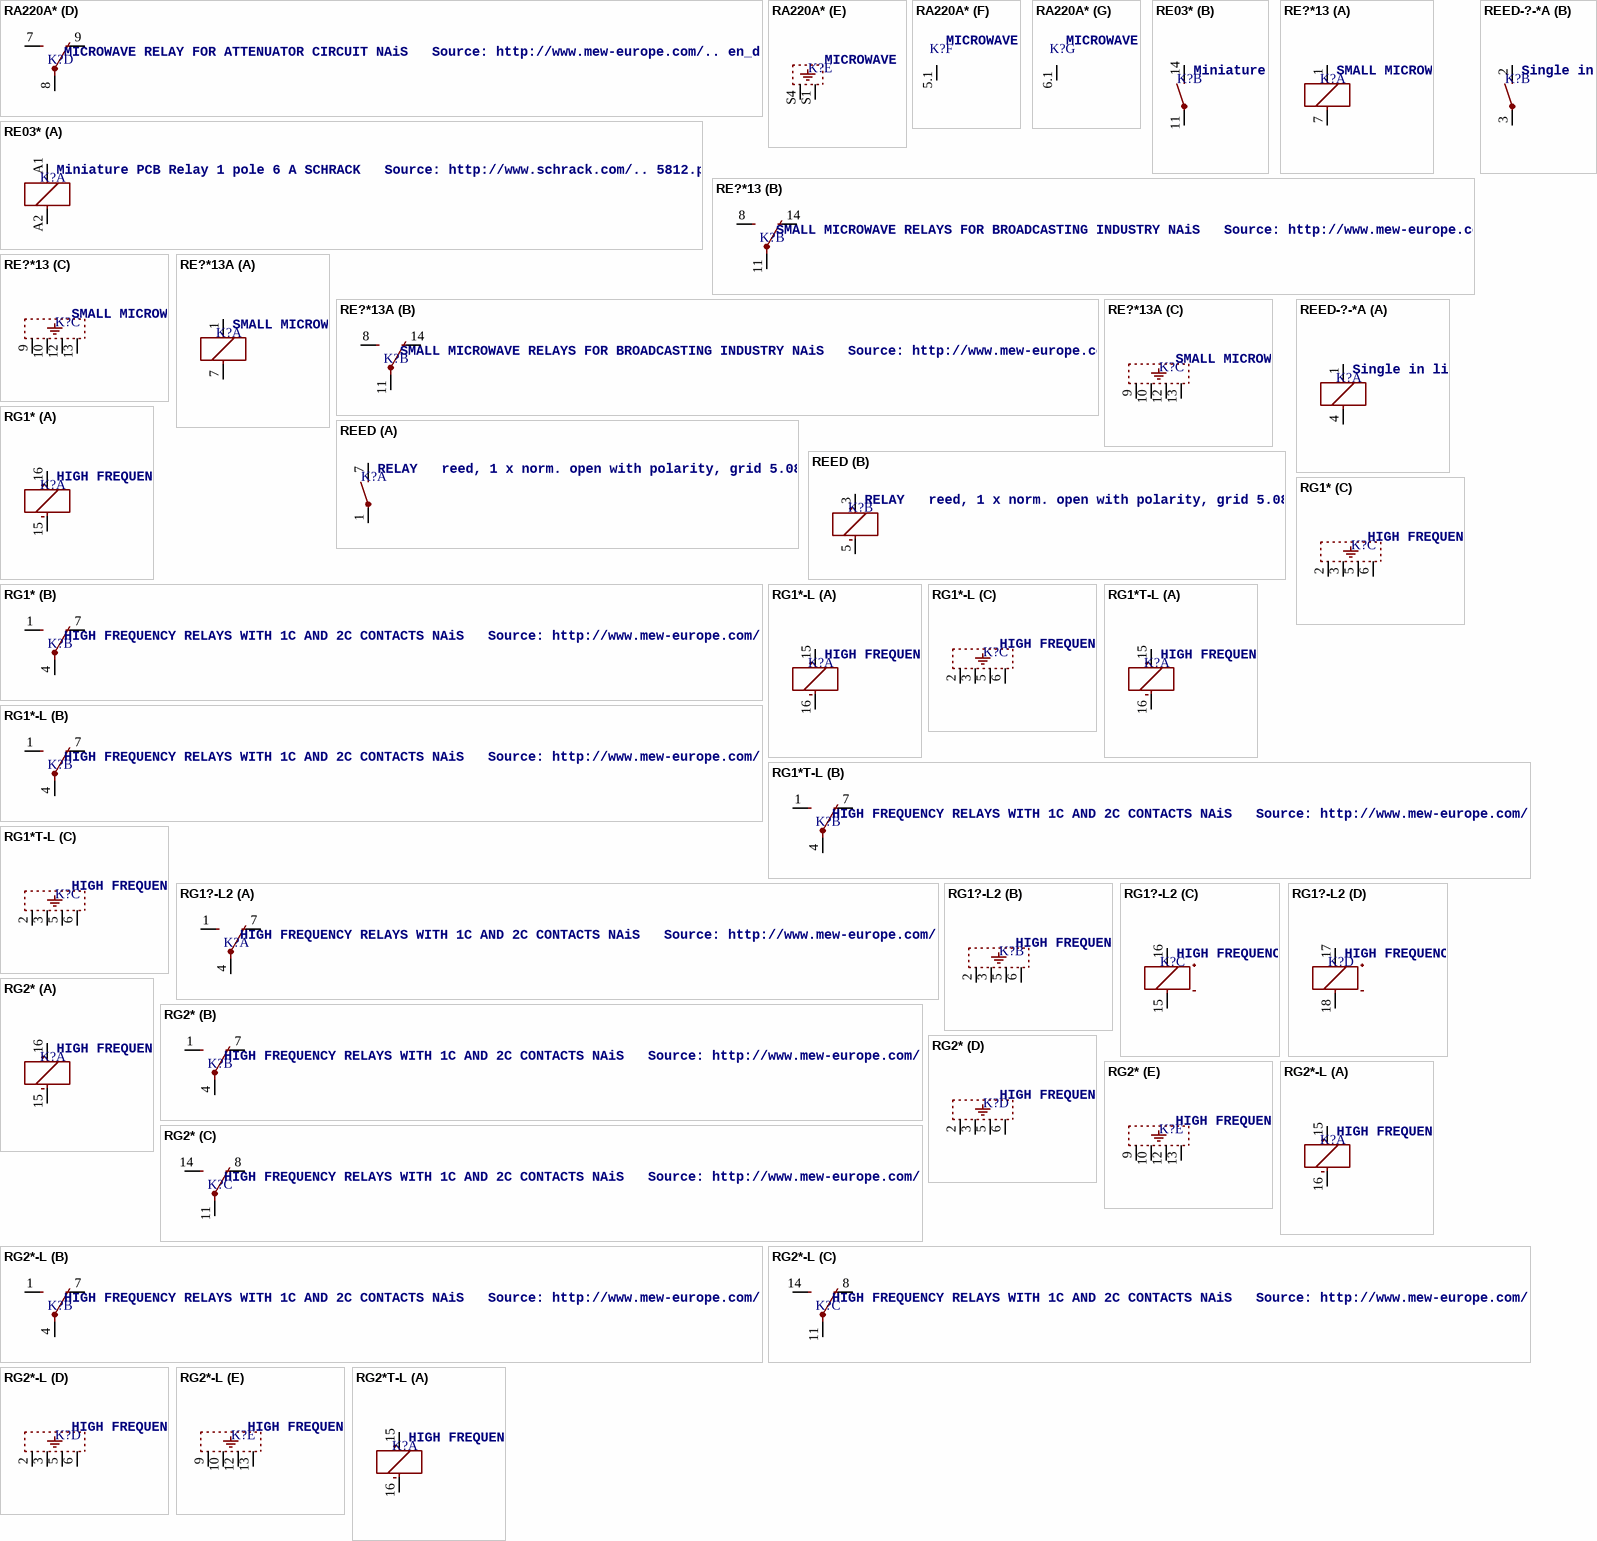
[diagram p19: symbols RA220A* to RG2*T-L]

## RA220A*
designator K?, comment MICROWAVE RELAY FOR ATTENUATOR CIRCUIT NAiS   Source: http://www.mew-europe.com/.. en_ds_61308_0000.pdf
MPN: ARA220A03Z; MPN: ARA220A05; MPN: ARA220A12Z; MPN: ARA220A4HZ; OC_FARNELL: unknown; OC_NEWARK: 12N3559; OC_NEWARK: 15P8679; OC_NEWARK: unknown; OC_NEWARK: 12N3560; OC_NEWARK: 12N3561
footprint RA-2COIL
part A pins: 6 -, 10 +
part B pins: 1 +, 5 -
part C pins: 2 O, 3 P, 4 S
part D pins: 7 S, 8 P, 9 O
part E pins: S1 SH@2, S4 SH@1
part F pins: 5.1 -
part G pins: 6.1 -

## RE03*
designator K?, comment Miniature PCB Relay 1 pole 6 A SCHRACK   Source: http://www.schrack.com/.. 5812.pdf
MPN: RE030005; MPN: RE030006; MPN: RE030012; MPN: RE030024; MPN: RE032005; MPN: RE032012; MPN: RE032024; MF: TYCO ELECTRONICS; OC_FARNELL: 515838; OC_NEWARK: 52F908; OC_FARNELL: unknown; OC_NEWARK: 92C1858; OC_FARNELL: 515840; OC_NEWARK: 17M1743; OC_FARNELL: 515851; OC_NEWARK: 52F910; OC_FARNELL: 1629023; OC_NEWARK: unknown; OC_NEWARK: 97K8812; OC_FARNELL: 9659684; OC_NEWARK: 97K8813; OC_FARNELL: 9659692; OC_NEWARK: 97K8814
footprint RE-SCHRACK
part A pins: A1 1, A2 2
part B pins: 11 P, 14 S

## RE?*13
designator K?, comment SMALL MICROWAVE RELAYS FOR BROADCASTING INDUSTRY NAiS   Source: http://www.mew-europe.com/.. en_ds_61310_0000.pdf
MPN: ARE1303; MPN: ARE1306; MPN: ARE1309; MPN: ARE1312; MPN: ARE1324; MPN: ARE134H; MF: AROMAT/ MATSUSHITA; OC_FARNELL: 1448347; OC_NEWARK: 64K3078; OC_FARNELL: unknown; OC_NEWARK: 11N2917; OC_NEWARK: 95M8248; OC_FARNELL: 3773000; OC_NEWARK: 13P1245; OC_NEWARK: 11N2919; OC_FARNELL: 3772998; OC_NEWARK: 13P1246
footprint RE
part A pins: 1, 7 2
part B pins: 8 S, 11 P, 14 O
part C pins: 9 SH@1, 10 SH@2, 12 SH@3, 13 SH@4

## RE?*13A
designator K?, comment SMALL MICROWAVE RELAYS FOR BROADCASTING INDUSTRY NAiS   Source: http://www.mew-europe.com/.. en_ds_61310_0000.pdf
MPN: ARE13A03; MPN: ARE13A06; MPN: ARE13A09; MPN: ARE13A12; MPN: ARE13A24; MPN: ARE13A4H; OC_FARNELL: unknown; OC_NEWARK: 71M0380; OC_NEWARK: 11N2902; OC_NEWARK: 11N2904; OC_FARNELL: 3773036; OC_NEWARK: 13P1241; OC_NEWARK: 11N2909; OC_FARNELL: 3773024; OC_NEWARK: 11N2913
footprint RE-SMD
part A pins: 1, 7 2
part B pins: 8 S, 11 P, 14 O
part C pins: 9 SH@1, 10 SH@2, 12 SH@3, 13 SH@4

## REED
designator K?, comment RELAY   reed, 1 x norm. open with polarity, grid 5.08
OC_FARNELL: unknown; OC_NEWARK: unknown
footprint REED
part A pins: 1 P, 7 S
part B pins: 3 +, 5 -

## REED-?-*A
designator K?, comment Single in line reed relay series A NAiS   Source: http://www.mew-europe.com/..  en_ds_61001_0000.pdf
OC_FARNELL: unknown; OC_NEWARK: unknown
footprint REED-SERIES-A
part A pins: 1, 4 2
part B pins: 2 S, 3 P

## RG1*
designator K?, comment HIGH FREQUENCY RELAYS WITH 1C AND 2C CONTACTS NAiS   Source: http://www.mew-europe.com/.. en_ds_61302_0000.pdf
OC_FARNELL: unknown; OC_NEWARK: unknown
footprint RG1
part A pins: 15 -, 16 +
part B pins: 1 S, 4 P, 7 O
part C pins: 2 SH@1, 3 SH@2, 5 SH@3, 6 SH@4

## RG1*-L
designator K?, comment HIGH FREQUENCY RELAYS WITH 1C AND 2C CONTACTS NAiS   Source: http://www.mew-europe.com/.. en_ds_61302_0000.pdf
OC_FARNELL: unknown; OC_NEWARK: unknown
footprint RG1
part A pins: 15 +, 16 -
part B pins: 1 S, 4 P, 7 O
part C pins: 2 SH@1, 3 SH@2, 5 SH@3, 6 SH@4

## RG1*T-L
designator K?, comment HIGH FREQUENCY RELAYS WITH 1C AND 2C CONTACTS NAiS   Source: http://www.mew-europe.com/.. en_ds_61302_0000.pdf
OC_FARNELL: unknown; OC_NEWARK: unknown
footprint RG1
part A pins: 15 +, 16 -
part B pins: 1 S, 4 P, 7 O
part C pins: 2 SH@1, 3 SH@2, 5 SH@3, 6 SH@4

## RG1?-L2
designator K?, comment HIGH FREQUENCY RELAYS WITH 1C AND 2C CONTACTS NAiS   Source: http://www.mew-europe.com/.. en_ds_61302_0000.pdf
OC_FARNELL: unknown; OC_NEWARK: unknown
footprint RG1
part A pins: 1 S, 4 P, 7 O
part B pins: 2 SH@1, 3 SH@2, 5 SH@3, 6 SH@4
part C pins: 15 -, 16 +
part D pins: 17 +, 18 -

## RG2*
designator K?, comment HIGH FREQUENCY RELAYS WITH 1C AND 2C CONTACTS NAiS   Source: http://www.mew-europe.com/.. en_ds_61302_0000.pdf
OC_FARNELL: unknown; OC_NEWARK: unknown
footprint RG2
part A pins: 15 -, 16 +
part B pins: 1 S, 4 P, 7 O
part C pins: 8 O, 11 P, 14 S
part D pins: 2 SH@1, 3 SH@2, 5 SH@3, 6 SH@4
part E pins: 9 SH@1, 10 SH@2, 12 SH@3, 13 SH@4

## RG2*-L
designator K?, comment HIGH FREQUENCY RELAYS WITH 1C AND 2C CONTACTS NAiS   Source: http://www.mew-europe.com/.. en_ds_61302_0000.pdf
OC_FARNELL: unknown; OC_NEWARK: unknown
footprint RG2
part A pins: 15 +, 16 -
part B pins: 1 S, 4 P, 7 O
part C pins: 8 O, 11 P, 14 S
part D pins: 2 SH@1, 3 SH@2, 5 SH@3, 6 SH@4
part E pins: 9 SH@1, 10 SH@2, 12 SH@3, 13 SH@4

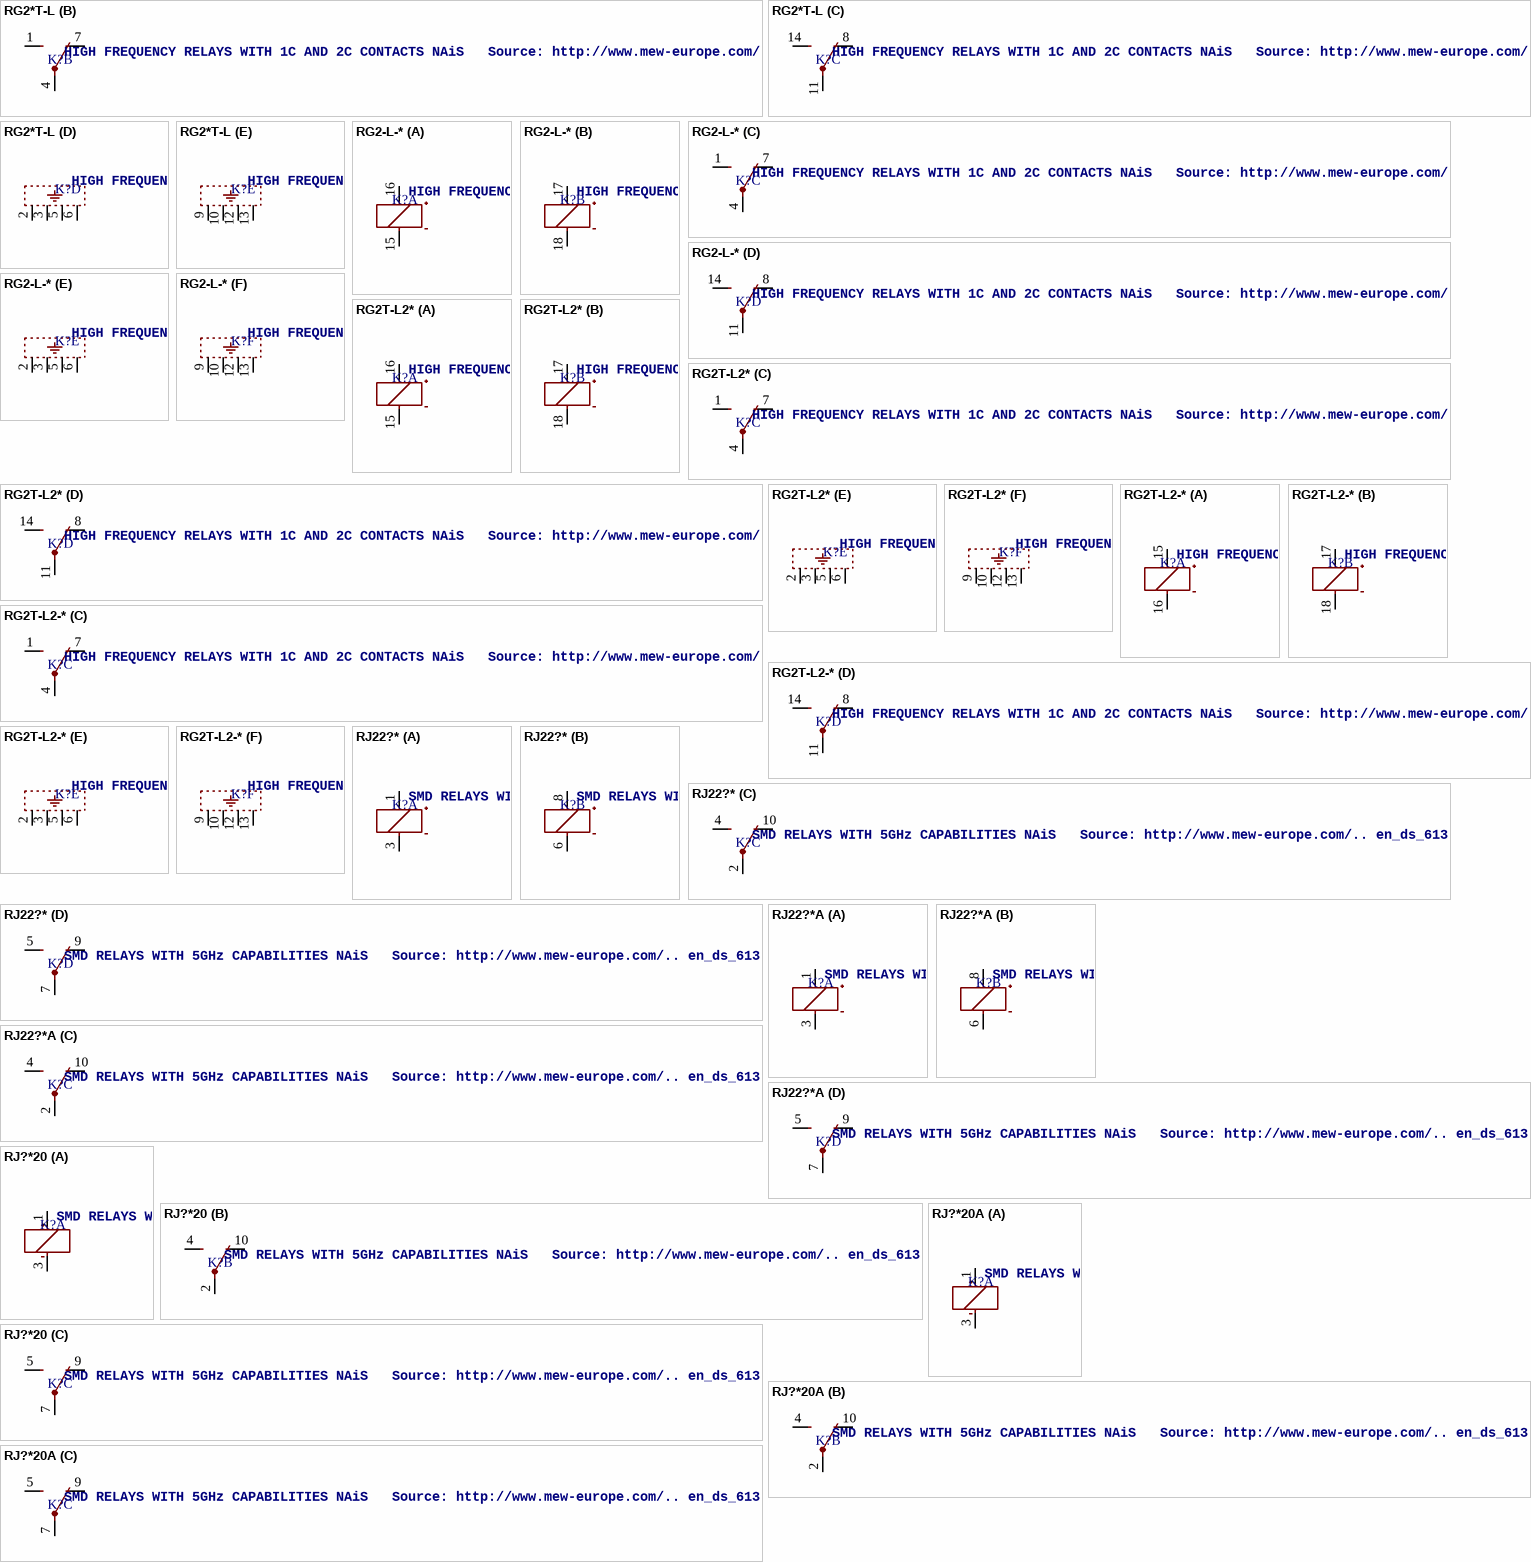
[diagram p20: symbols RG2*T-L to RJ?*20A]

## RG2*T-L
designator K?, comment HIGH FREQUENCY RELAYS WITH 1C AND 2C CONTACTS NAiS   Source: http://www.mew-europe.com/.. en_ds_61302_0000.pdf
OC_FARNELL: unknown; OC_NEWARK: unknown
footprint RG2
part A pins: 15 +, 16 -
part B pins: 1 S, 4 P, 7 O
part C pins: 8 O, 11 P, 14 S
part D pins: 2 SH@1, 3 SH@2, 5 SH@3, 6 SH@4
part E pins: 9 SH@1, 10 SH@2, 12 SH@3, 13 SH@4

## RG2-L-*
designator K?, comment HIGH FREQUENCY RELAYS WITH 1C AND 2C CONTACTS NAiS   Source: http://www.mew-europe.com/.. en_ds_61302_0000.pdf
OC_FARNELL: unknown; OC_NEWARK: unknown
footprint RG2
part A pins: 15 -, 16 +
part B pins: 17 +, 18 -
part C pins: 1 S, 4 P, 7 O
part D pins: 8 O, 11 P, 14 S
part E pins: 2 SH@1, 3 SH@2, 5 SH@3, 6 SH@4
part F pins: 9 SH@1, 10 SH@2, 12 SH@3, 13 SH@4

## RG2T-L2*
designator K?, comment HIGH FREQUENCY RELAYS WITH 1C AND 2C CONTACTS NAiS   Source: http://www.mew-europe.com/.. en_ds_61302_0000.pdf
OC_FARNELL: unknown; OC_NEWARK: unknown
footprint RG2
part A pins: 15 -, 16 +
part B pins: 17 +, 18 -
part C pins: 1 S, 4 P, 7 O
part D pins: 8 O, 11 P, 14 S
part E pins: 2 SH@1, 3 SH@2, 5 SH@3, 6 SH@4
part F pins: 9 SH@1, 10 SH@2, 12 SH@3, 13 SH@4

## RG2T-L2-*
designator K?, comment HIGH FREQUENCY RELAYS WITH 1C AND 2C CONTACTS NAiS   Source: http://www.mew-europe.com/.. en_ds_61302_0000.pdf
OC_FARNELL: unknown; OC_NEWARK: unknown
footprint RG2
part A pins: 15 +, 16 -
part B pins: 17 +, 18 -
part C pins: 1 S, 4 P, 7 O
part D pins: 8 O, 11 P, 14 S
part E pins: 2 SH@1, 3 SH@2, 5 SH@3, 6 SH@4
part F pins: 9 SH@1, 10 SH@2, 12 SH@3, 13 SH@4

## RJ22?*
designator K?, comment SMD RELAYS WITH 5GHz CAPABILITIES NAiS   Source: http://www.mew-europe.com/.. en_ds_61313_0000.pdf
MPN: ARJ2203; MPN: ARJ2212; MPN: ARJ2224; MPN: ARJ224H; OC_FARNELL: unknown; OC_NEWARK: 11N2935; OC_NEWARK: 11N2936; OC_NEWARK: 11N2937; OC_NEWARK: 11N2938
footprint RJ
part A pins: 1 +, 3 -
part B pins: 6 -, 8 +
part C pins: 2 P, 4 S, 10 O
part D pins: 5 S, 7 P, 9 O

## RJ22?*A
designator K?, comment SMD RELAYS WITH 5GHz CAPABILITIES NAiS   Source: http://www.mew-europe.com/.. en_ds_61313_0000.pdf
MPN: ARJ22A03; MPN: ARJ22A12; MPN: ARJ22A24; MPN: ARJ22A4H; OC_FARNELL: unknown; OC_NEWARK: 11N2929; OC_FARNELL: 9008446; OC_NEWARK: 13P1249; OC_NEWARK: 11N2932; OC_NEWARK: 13P1250
footprint RJ-SMD
part A pins: 1 +, 3 -
part B pins: 6 -, 8 +
part C pins: 2 P, 4 S, 10 O
part D pins: 5 S, 7 P, 9 O

## RJ?*20
designator K?, comment SMD RELAYS WITH 5GHz CAPABILITIES NAiS   Source: http://www.mew-europe.com/.. en_ds_61313_0000.pdf
MPN: ARJ2003; MPN: ARJ2012; MPN: ARJ2024; MPN: ARJ204H; MF: AROMAT/ MATSUSHITA; OC_FARNELL: unknown; OC_NEWARK: 11N2927; OC_NEWARK: 81C8602; OC_NEWARK: 11N2928; OC_NEWARK: 63H2424
footprint RJ
part A pins: 1 +, 3 -
part B pins: 2 P, 4 S, 10 O
part C pins: 5 S, 7 P, 9 O

## RJ?*20A
designator K?, comment SMD RELAYS WITH 5GHz CAPABILITIES NAiS   Source: http://www.mew-europe.com/.. en_ds_61313_0000.pdf
MPN: ARJ20A03; MPN: ARJ20A12; MPN: ARJ20A24; MPN: ARJ20A4H; OC_FARNELL: unknown; OC_NEWARK: 11N2921; OC_FARNELL: 8928207; OC_NEWARK: 13P1247; OC_NEWARK: 11N2924; OC_NEWARK: 13P1248
footprint RJ-SMD
part A pins: 1 +, 3 -
part B pins: 2 P, 4 S, 10 O
part C pins: 5 S, 7 P, 9 O

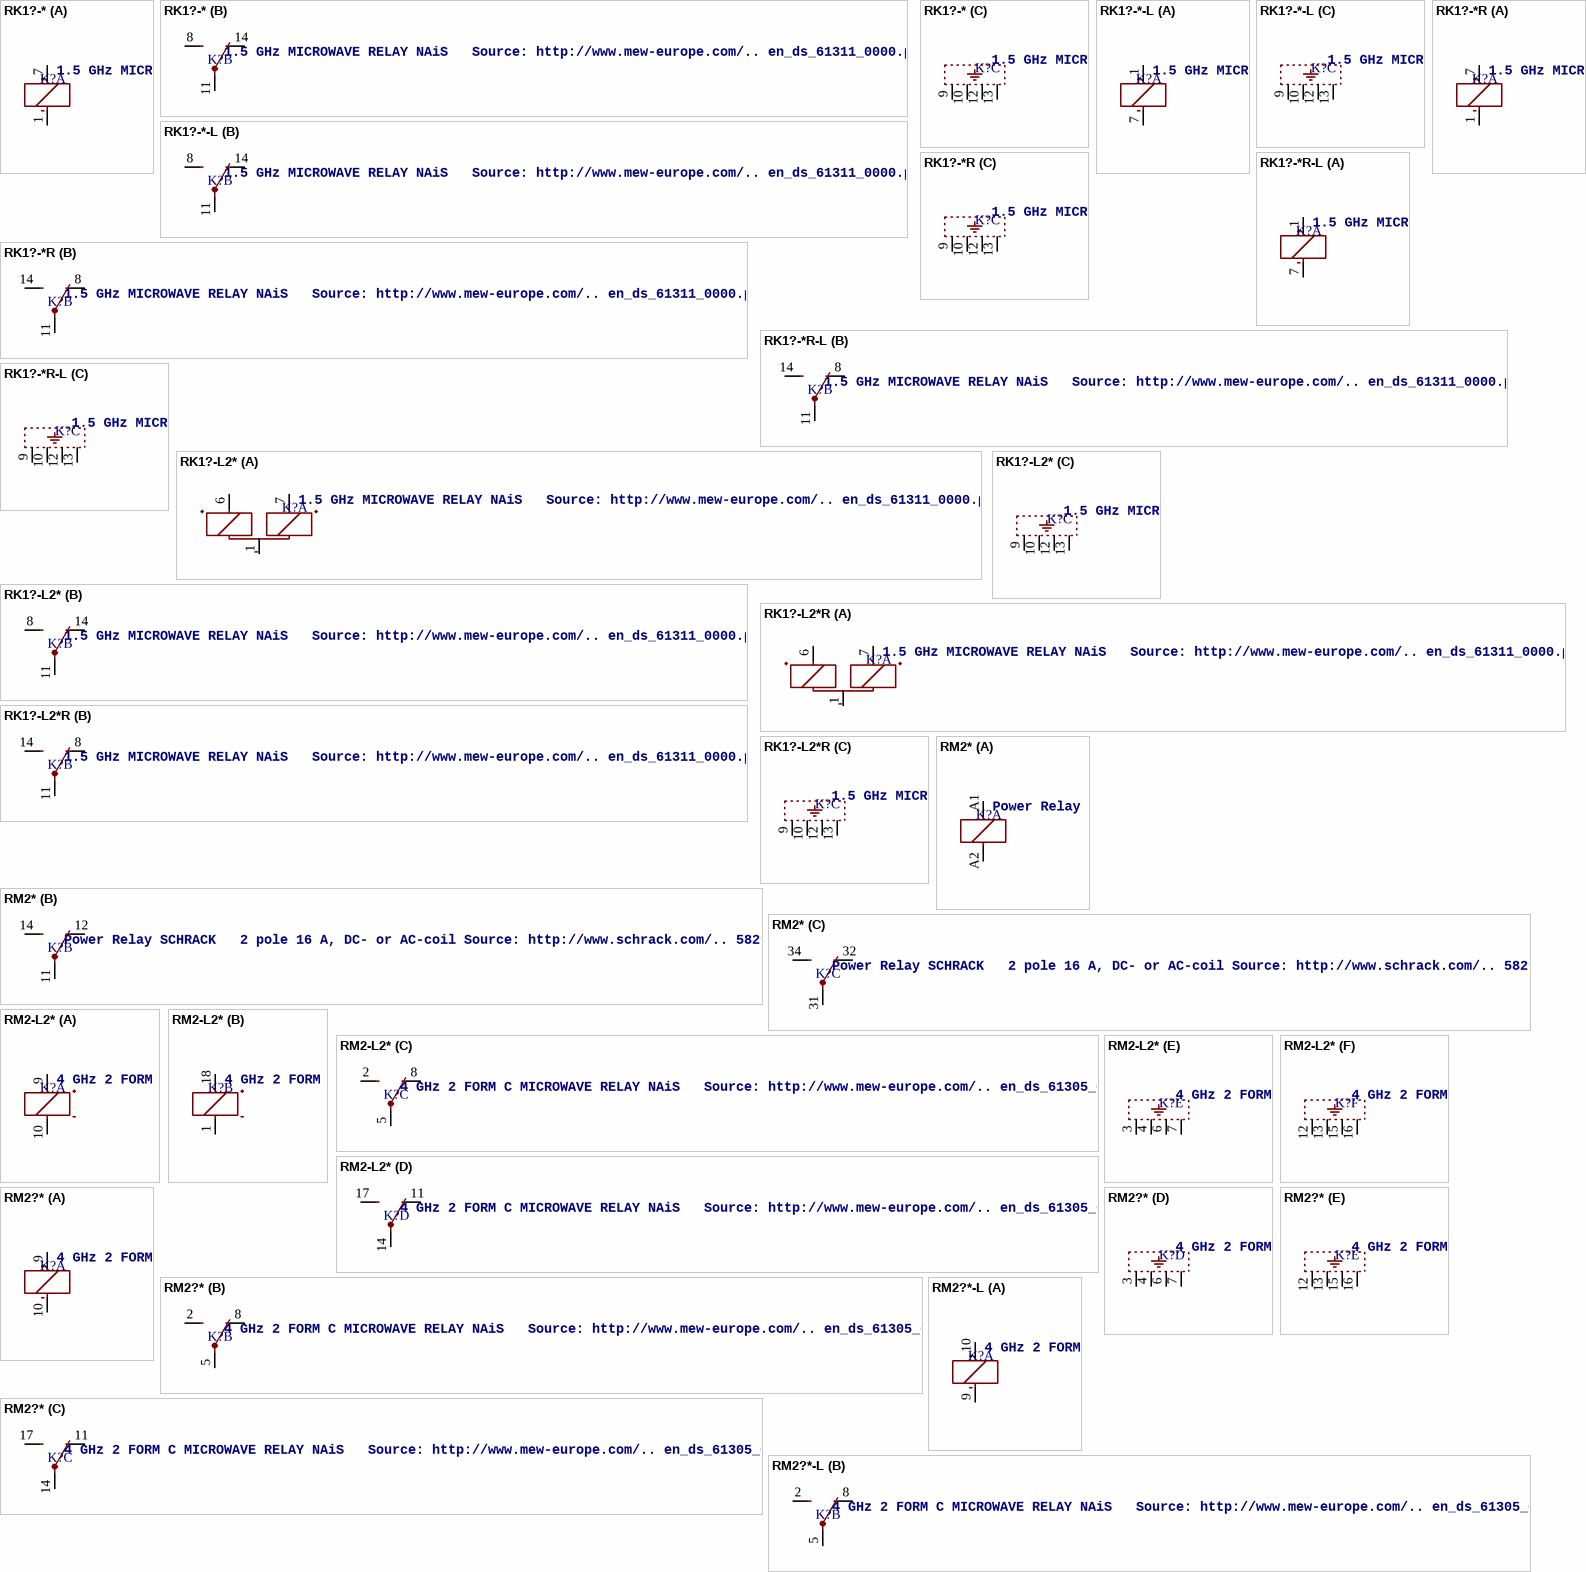
[diagram p21: symbols RK1?-* to RM2?*-L]

## RK1?-*
designator K?, comment 1.5 GHz MICROWAVE RELAY NAiS   Source: http://www.mew-europe.com/.. en_ds_61311_0000.pdf
MPN: RK1-12V; MPN: RK1-24V; MPN: RK1-4.5V; MPN: RK1-5V; MPN: RK1-6V; MF: AROMAT/ MATSUSHITA; OC_FARNELL: unknown; OC_NEWARK: 13P6876; OC_NEWARK: 13P6877; OC_NEWARK: unknown; OC_NEWARK: 13P6878; OC_NEWARK: 13P6879; OC_NEWARK: 10C9196
footprint RK1A
part A pins: 1 -, 7 +
part B pins: 8 S, 11 P, 14 O
part C pins: 9 SH@1, 10 SH@2, 12 SH@3, 13 SH@4

## RK1?-*-L
designator K?, comment 1.5 GHz MICROWAVE RELAY NAiS   Source: http://www.mew-europe.com/.. en_ds_61311_0000.pdf
MPN: RK1-L-4.5V; MPN: RK1-L-5V; MF: AROMAT/ MATSUSHITA; OC_FARNELL: unknown; OC_NEWARK: unknown; OC_NEWARK: 11N5893; OC_NEWARK: 10C9186
footprint RK1A
part A pins: 1 +, 7 -
part B pins: 8 S, 11 P, 14 O
part C pins: 9 SH@1, 10 SH@2, 12 SH@3, 13 SH@4

## RK1?-*R
designator K?, comment 1.5 GHz MICROWAVE RELAY NAiS   Source: http://www.mew-europe.com/.. en_ds_61311_0000.pdf
OC_FARNELL: unknown; OC_NEWARK: unknown
footprint RK1A
part A pins: 1 -, 7 +
part B pins: 8 O, 11 P, 14 S
part C pins: 9 SH@1, 10 SH@2, 12 SH@3, 13 SH@4

## RK1?-*R-L
designator K?, comment 1.5 GHz MICROWAVE RELAY NAiS   Source: http://www.mew-europe.com/.. en_ds_61311_0000.pdf
OC_FARNELL: unknown; OC_NEWARK: unknown
footprint RK1A
part A pins: 1 +, 7 -
part B pins: 8 O, 11 P, 14 S
part C pins: 9 SH@1, 10 SH@2, 12 SH@3, 13 SH@4

## RK1?-L2*
designator K?, comment 1.5 GHz MICROWAVE RELAY NAiS   Source: http://www.mew-europe.com/.. en_ds_61311_0000.pdf
MPN: RK1-L2-12V; MF: AROMAT/ MATSUSHITA; OC_FARNELL: 1616207; OC_NEWARK: 10C9189
footprint RKL2
part A pins: 1 -, 6 S+, 7 R+
part B pins: 8 S, 11 P, 14 O
part C pins: 9 SH@1, 10 SH@2, 12 SH@3, 13 SH@4

## RK1?-L2*R
designator K?, comment 1.5 GHz MICROWAVE RELAY NAiS   Source: http://www.mew-europe.com/.. en_ds_61311_0000.pdf
OC_FARNELL: unknown; OC_NEWARK: unknown
footprint RKL2
part A pins: 1 -, 6 S+, 7 R+
part B pins: 8 O, 11 P, 14 S
part C pins: 9 SH@1, 10 SH@2, 12 SH@3, 13 SH@4

## RM2*
designator K?, comment Power Relay SCHRACK   2 pole 16 A, DC- or AC-coil Source: http://www.schrack.com/.. 5829.pdf
OC_FARNELL: unknown; OC_NEWARK: unknown
footprint RM-2
part A pins: A1 1, A2 2
part B pins: 11 P, 12 O, 14 S
part C pins: 31 P, 32 O, 34 S

## RM2-L2*
designator K?, comment 4 GHz 2 FORM C MICROWAVE RELAY NAiS   Source: http://www.mew-europe.com/.. en_ds_61305_0000.pdf
OC_FARNELL: unknown; OC_NEWARK: unknown
footprint RM2
part A pins: 9 +, 10 -
part B pins: 1 -, 18 +
part C pins: 2 S, 5 P, 8 O
part D pins: 11 O, 14 P, 17 S
part E pins: 3 SH@1, 4 SH@2, 6 SH@3, 7 SH@4
part F pins: 12 SH@1, 13 SH@2, 15 SH@3, 16 SH@4

## RM2?*
designator K?, comment 4 GHz 2 FORM C MICROWAVE RELAY NAiS   Source: http://www.mew-europe.com/.. en_ds_61305_0000.pdf
OC_FARNELL: unknown; OC_NEWARK: unknown
footprint RM
part A pins: 9 +, 10 -
part B pins: 2 S, 5 P, 8 O
part C pins: 11 O, 14 P, 17 S
part D pins: 3 SH@1, 4 SH@2, 6 SH@3, 7 SH@4
part E pins: 12 SH@1, 13 SH@2, 15 SH@3, 16 SH@4

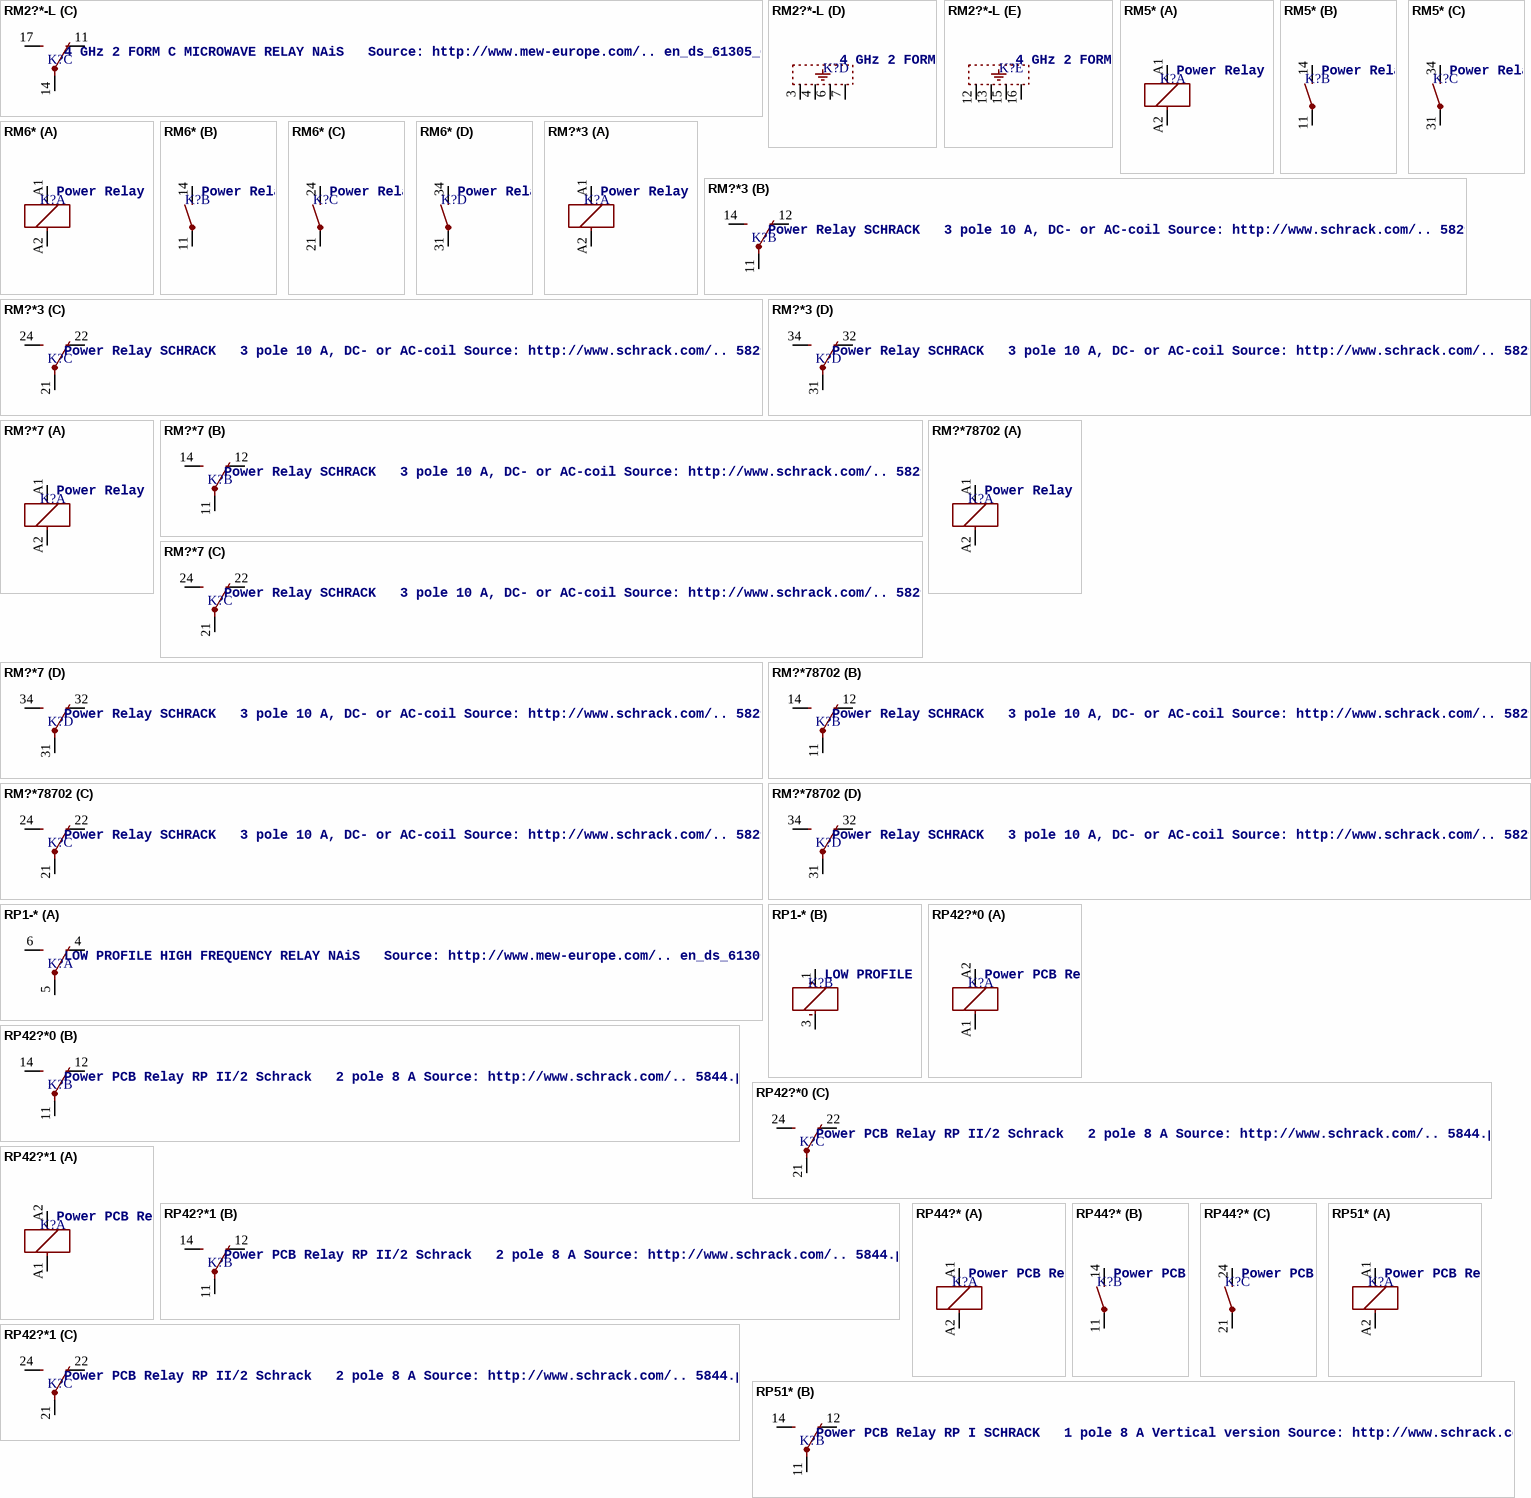
[diagram p22: symbols RM2?*-L to RP51*]

## RM2?*-L
designator K?, comment 4 GHz 2 FORM C MICROWAVE RELAY NAiS   Source: http://www.mew-europe.com/.. en_ds_61305_0000.pdf
OC_FARNELL: unknown; OC_NEWARK: unknown
footprint RM
part A pins: 9 -, 10 +
part B pins: 2 S, 5 P, 8 O
part C pins: 11 O, 14 P, 17 S
part D pins: 3 SH@1, 4 SH@2, 6 SH@3, 7 SH@4
part E pins: 12 SH@1, 13 SH@2, 15 SH@3, 16 SH@4

## RM5*
designator K?, comment Power Relay SCHRACK   2 pole 16 A, DC- or AC-coil Source: http://www.schrack.com/.. 5832.pdf
OC_FARNELL: unknown; OC_NEWARK: unknown
footprint RM-6
part A pins: A1 1, A2 2
part B pins: 11 P, 14 S
part C pins: 31 P, 34 S

## RM6*
designator K?, comment Power Relay SCHRACK   3 pole 10 A, DC- or AC-coil Source: http://www.schrack.com/.. 5832.pdf
MPN: RM607524; MPN: RM607730; OC_FARNELL: unknown; OC_NEWARK: unknown; OC_NEWARK: 48M7685; OC_NEWARK: 03M2867
footprint RM-5
part A pins: A1 1, A2 2
part B pins: 11 P, 14 S
part C pins: 21 P, 24 S
part D pins: 31 P, 34 S

## RM?*3
designator K?, comment Power Relay SCHRACK   3 pole 10 A, DC- or AC-coil Source: http://www.schrack.com/.. 5829.pdf Socket with PCB terminals Source: http://www.schrack.com/.. 5841.pdf
OC_FARNELL: unknown; OC_NEWARK: unknown
footprint RM-2/3/7
part A pins: A1 1, A2 2
part B pins: 11 P, 12 O, 14 S
part C pins: 21 P, 22 O, 24 S
part D pins: 31 P, 32 O, 34 S

## RM?*7
designator K?, comment Power Relay SCHRACK   3 pole 10 A, DC- or AC-coil Source: http://www.schrack.com/.. 5829.pdf Socket with PCB terminals Source: http://www.schrack.com/.. 5841.pdf
OC_FARNELL: unknown; OC_NEWARK: unknown
footprint RM-2/3/7
part A pins: A1 1, A2 2
part B pins: 11 P, 12 O, 14 S
part C pins: 21 P, 22 O, 24 S
part D pins: 31 P, 32 O, 34 S

## RM?*78702
designator K?, comment Power Relay SCHRACK   3 pole 10 A, DC- or AC-coil Source: http://www.schrack.com/.. 5829.pdf Socket with PCB terminals Source: http://www.schrack.com/.. 5841.pdf
MPN: RM78702; MF: TYCO ELECTRONICS; OC_FARNELL: 1652632; OC_NEWARK: 36K3468
footprint RM78702
part A pins: A1 1, A2 2
part B pins: 11 P, 12 O, 14 S
part C pins: 21 P, 22 O, 24 S
part D pins: 31 P, 32 O, 34 S

## RP1-*
designator K?, comment LOW PROFILE HIGH FREQUENCY RELAY NAiS   Source: http://www.mew-europe.com/.. en_ds_61306_0000.pdf
MPN: RP1-12V; MPN: RP1-24V; MPN: RP1-5V; MF: AROMAT/ MATSUSHITA; OC_FARNELL: unknown; OC_NEWARK: unknown; OC_NEWARK: 92B3783; OC_NEWARK: 10C9248; OC_NEWARK: 64K3170
footprint RP
part A pins: 4 O, 5 P, 6 S
part B pins: 1 +, 3 -

## RP42?*0
designator K?, comment Power PCB Relay RP II/2 Schrack   2 pole 8 A Source: http://www.schrack.com/.. 5844.pdf
MPN: RP420005; MPN: RP420006; MPN: RP420012; MPN: RP420024; MPN: RP420048; MPN: RP420060; MPN: RP420110; MF: TYCO ELECTRONICS; OC_FARNELL: unknown; OC_NEWARK: 48M7798; OC_NEWARK: 48M7799; OC_FARNELL: 3103330; OC_NEWARK: 90B4410; OC_FARNELL: 1703720; OC_NEWARK: 51B969; OC_NEWARK: 92C3381; OC_NEWARK: 48M7803; OC_NEWARK: 08H3601
footprint RP420
part A pins: A1 2, A2 1
part B pins: 11 P, 12 O, 14 S
part C pins: 21 P, 22 O, 24 S

## RP42?*1
designator K?, comment Power PCB Relay RP II/2 Schrack   2 pole 8 A Source: http://www.schrack.com/.. 5844.pdf
MPN: 6-1393234-4; MPN: 6-1393234-5; MPN: RP421012; MPN: RP421024; MPN: RP421048; MPN: RP421060; MPN: RP421110; MF: TYCO ELECTRONICS; OC_FARNELL: unknown; OC_NEWARK: 16H0760; OC_NEWARK: 16H0761; OC_NEWARK: 90B5481; OC_FARNELL: 1608388; OC_NEWARK: 01C0518; OC_NEWARK: 08H3604; OC_NEWARK: 84H0645; OC_NEWARK: 39C2625
footprint RP420
part A pins: A1 2, A2 1
part B pins: 11 P, 12 O, 14 S
part C pins: 21 P, 22 O, 24 S

## RP44?*
designator K?, comment Power PCB Relay RP II/2 Schrack   2 pole 8 A Source: http://www.schrack.com/.. 5844.pdf
MPN: RP440012; MPN: RP440024; MPN: RP441012; MPN: RP441024; MF: TYCO ELECTRONICS; OC_FARNELL: unknown; OC_NEWARK: unknown; OC_NEWARK: 07H9451; OC_NEWARK: 48M7816; OC_NEWARK: 09H1465; OC_NEWARK: 48M7817
footprint RP440
part A pins: A1 1, A2 2
part B pins: 11 P, 14 S
part C pins: 21 P, 24 S

## RP51*
designator K?, comment Power PCB Relay RP I SCHRACK   1 pole 8 A Vertical version Source: http://www.schrack.com/.. 5845.pdf
OC_FARNELL: unknown; OC_NEWARK: unknown
footprint RP51
part A pins: A1 1, A2 2
part B pins: 11 P, 12 O, 14 S

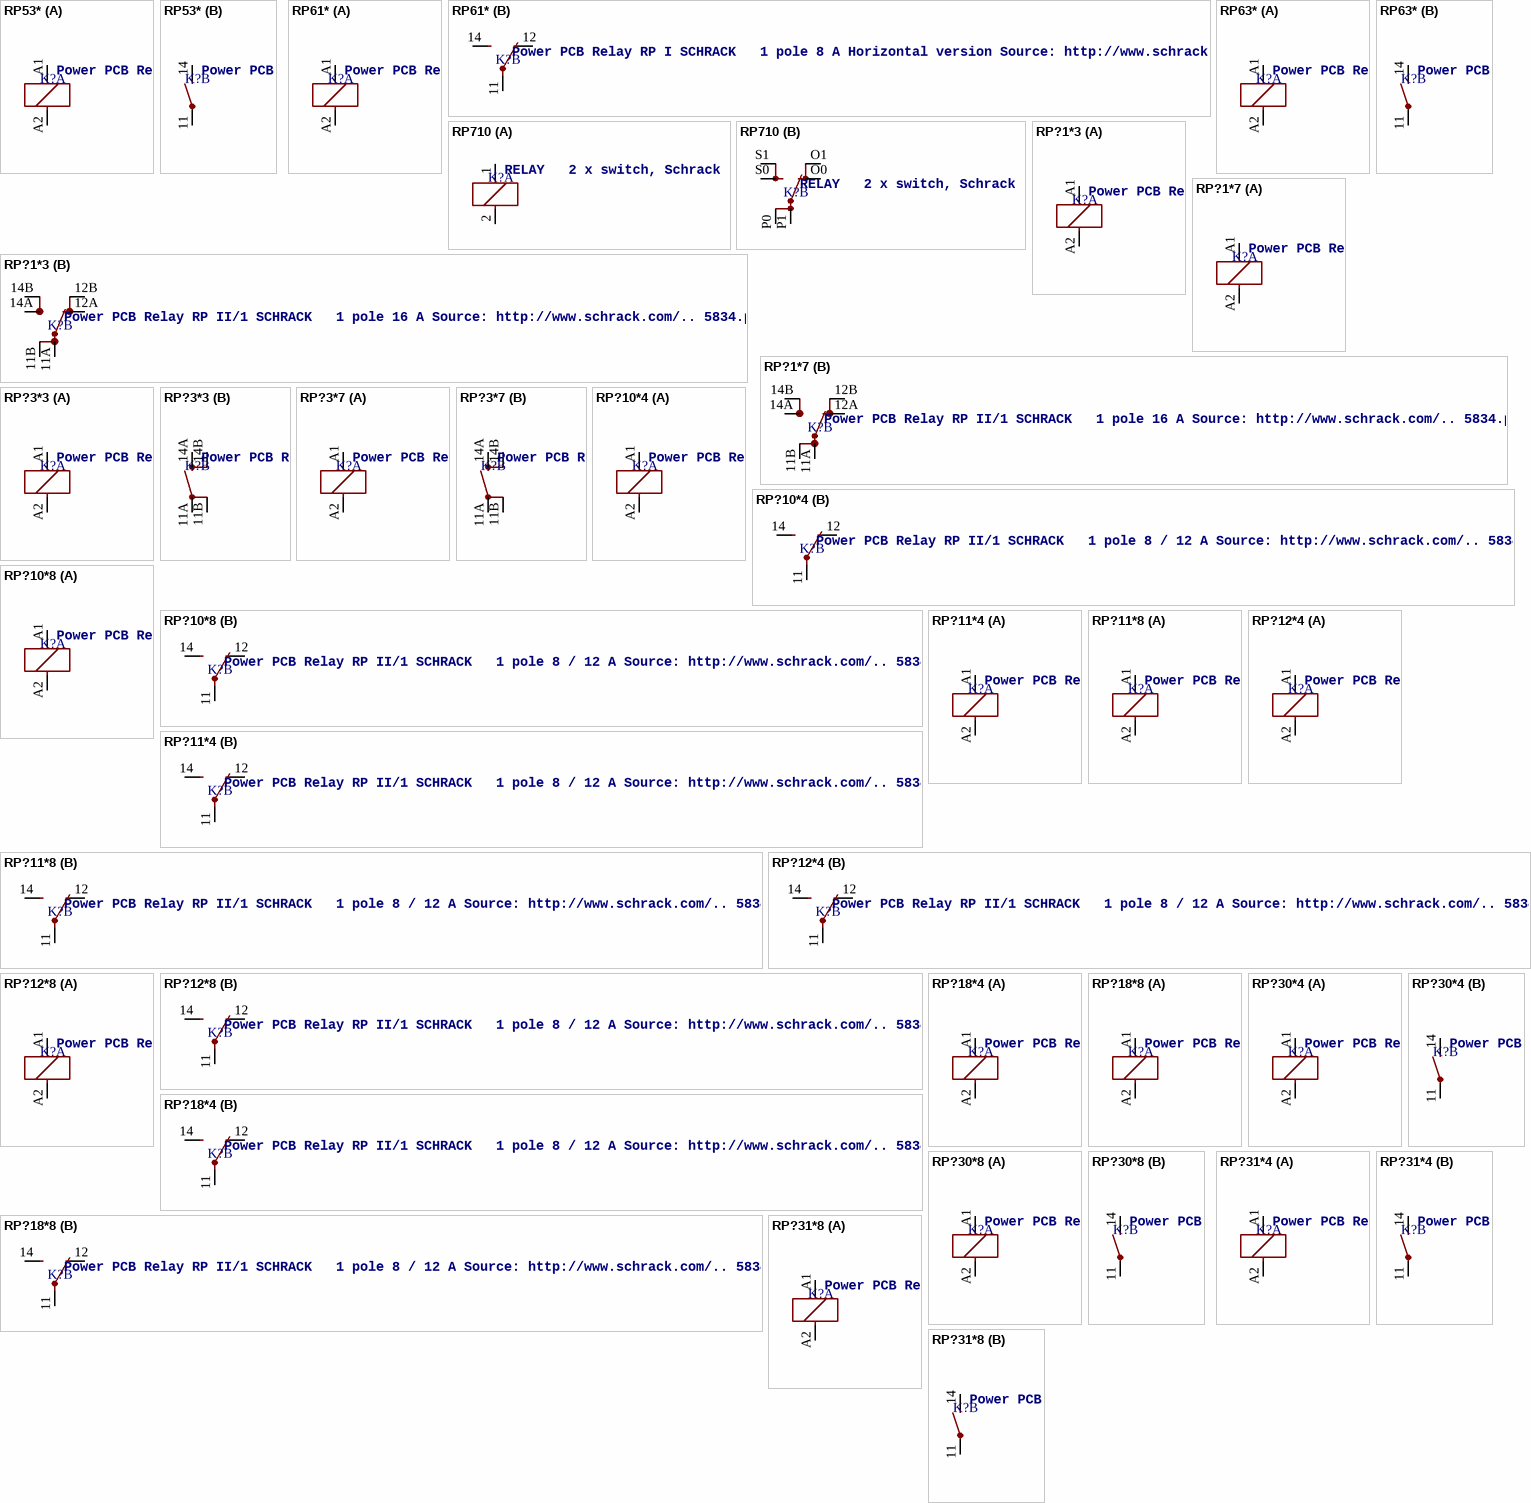
[diagram p23: symbols RP53* to RP?31*8]

## RP53*
designator K?, comment Power PCB Relay RP I SCHRACK   1 pole 8 A Vertical version Source: http://www.schrack.com/.. 5845.pdf
MPN: RP530060-3-0; OC_FARNELL: unknown; OC_NEWARK: unknown; OC_NEWARK: 16C5685
footprint RP53
part A pins: A1 1, A2 2
part B pins: 11 P, 14 S

## RP61*
designator K?, comment Power PCB Relay RP I SCHRACK   1 pole 8 A Horizontal version Source: http://www.schrack.com/.. 5845.pdf
OC_FARNELL: unknown; OC_NEWARK: unknown
footprint RP61
part A pins: A1 1, A2 2
part B pins: 11 P, 12 O, 14 S

## RP63*
designator K?, comment Power PCB Relay RP I SCHRACK   1 pole 8 A Horizontal version Source: http://www.schrack.com/.. 5845.pdf
OC_FARNELL: unknown; OC_NEWARK: unknown
footprint RP63
part A pins: A1 1, A2 2
part B pins: 11 P, 14 S

## RP710
designator K?, comment RELAY   2 x switch, Schrack
MPN: RP710024; MF: TYCO ELECTRONICS; OC_FARNELL: 388312; OC_NEWARK: 17M1785
footprint RP710
part A pins: 1, 2
part B pins: O0 O, O1 O@1, P0 P@1, P1 P, S0 S, S1 S@1

## RP?1*3
designator K?, comment Power PCB Relay RP II/1 SCHRACK   1 pole 16 A Source: http://www.schrack.com/.. 5834.pdf
MPN: RP310005; MPN: RP310006; MPN: RP310012.; MPN: RP310024; MPN: RP310048; MPN: RP310110; MF: TYCO ELECTRONICS; MF: FARNELL; OC_FARNELL: unknown; OC_NEWARK: 48M7769; OC_NEWARK: 08H3568; OC_FARNELL: 388294; OC_NEWARK: 87H7751; OC_FARNELL: 1838950; OC_NEWARK: 17M1783; OC_NEWARK: 08H3569; OC_NEWARK: unknown; OC_NEWARK: 97C5675
footprint RT-C/O16A5
part A pins: A1 1, A2 2
part B pins: 11A PA, 11B PB, 12A OA, 12B OB, 14A SA, 14B SB

## RP?1*7
designator K?, comment Power PCB Relay RP II/1 SCHRACK   1 pole 16 A Source: http://www.schrack.com/.. 5834.pdf
MPN: RP710005; MPN: RP710006; MPN: RP710012; MPN: RP710024; MPN: RP710048; MF: TYCO ELECTRONICS; MF: FARNELL; OC_FARNELL: unknown; OC_NEWARK: 52F964; OC_NEWARK: 08H3633; OC_FARNELL: 388312; OC_NEWARK: 50H2650; OC_FARNELL: 388324; OC_NEWARK: 17M1785; OC_NEWARK: 48M7825; OC_NEWARK: unknown
footprint RT-C/O16A5
part A pins: A1 1, A2 2
part B pins: 11A PA, 11B PB, 12A OA, 12B OB, 14A SA, 14B SB

## RP?3*3
designator K?, comment Power PCB Relay RP II/1 SCHRACK   1 pole 16 A Source: http://www.schrack.com/.. 5834.pdf
MPN: RP330048; OC_FARNELL: 388178; OC_NEWARK: 48M7779
footprint RT-N/O16A5
part A pins: A1 1, A2 2
part B pins: 11A PA, 11B PB, 14A SA, 14B SB

## RP?3*7
designator K?, comment Power PCB Relay RP II/1 SCHRACK   1 pole 16 A Source: http://www.schrack.com/.. 5834.pdf
OC_FARNELL: unknown; OC_NEWARK: unknown
footprint RT-N/O16A5
part A pins: A1 1, A2 2
part B pins: 11A PA, 11B PB, 14A SA, 14B SB

## RP?10*4
designator K?, comment Power PCB Relay RP II/1 SCHRACK   1 pole 8 / 12 A Source: http://www.schrack.com/.. 5834.pdf
OC_FARNELL: unknown; OC_NEWARK: unknown
footprint RT-C/O12A5
part A pins: A1 1, A2 2
part B pins: 11 P, 12 O, 14 S

## RP?10*8
designator K?, comment Power PCB Relay RP II/1 SCHRACK   1 pole 8 / 12 A Source: http://www.schrack.com/.. 5834.pdf
MPN: RP810012; MPN: 9-1393231-2; MPN: RP810048; MF: TYCO ELECTRONICS; OC_FARNELL: unknown; OC_NEWARK: unknown; OC_NEWARK: 48M7834; OC_NEWARK: 16H8837; OC_NEWARK: 08H3642
footprint RT-C/O12A5
part A pins: A1 1, A2 2
part B pins: 11 P, 12 O, 14 S

## RP?11*4
designator K?, comment Power PCB Relay RP II/1 SCHRACK   1 pole 8 / 12 A Source: http://www.schrack.com/.. 5834.pdf
MPN: RP411012; MPN: RP411024; MPN: RP411110; OC_FARNELL: unknown; OC_NEWARK: unknown; OC_NEWARK: 48M7784; OC_NEWARK: 48M7785; OC_NEWARK: 48M7786
footprint RT-C/O12A5
part A pins: A1 1, A2 2
part B pins: 11 P, 12 O, 14 S

## RP?11*8
designator K?, comment Power PCB Relay RP II/1 SCHRACK   1 pole 8 / 12 A Source: http://www.schrack.com/.. 5834.pdf
MPN: RP811024; OC_FARNELL: unknown; OC_NEWARK: unknown; OC_NEWARK: 48M7836
footprint RT-C/O12A5
part A pins: A1 1, A2 2
part B pins: 11 P, 12 O, 14 S

## RP?12*4
designator K?, comment Power PCB Relay RP II/1 SCHRACK   1 pole 8 / 12 A Source: http://www.schrack.com/.. 5834.pdf
MPN: 1393231-8; MPN: RP412012; MPN: RP412024; MPN: RP412110; MF: TYCO ELECTRONICS; OC_FARNELL: unknown; OC_NEWARK: 11H3247; OC_NEWARK: unknown; OC_NEWARK: 08H3590; OC_NEWARK: 48M7788; OC_NEWARK: 48M7789
footprint RT-C/O12A3.5
part A pins: A1 1, A2 2
part B pins: 11 P, 12 O, 14 S

## RP?12*8
designator K?, comment Power PCB Relay RP II/1 SCHRACK   1 pole 8 / 12 A Source: http://www.schrack.com/.. 5834.pdf
MPN: RP812024; MF: TYCO ELECTRONICS; OC_FARNELL: unknown; OC_NEWARK: unknown; OC_NEWARK: 08H3648
footprint RT-C/O12A3.5
part A pins: A1 1, A2 2
part B pins: 11 P, 12 O, 14 S

## RP?18*4
designator K?, comment Power PCB Relay RP II/1 SCHRACK   1 pole 8 / 12 A Source: http://www.schrack.com/.. 5834.pdf
MPN: RP418006; MPN: RP418012.; MPN: RP418024; MPN: RP418048; MPN: RP418110; MF: TYCO ELECTRONICS; OC_FARNELL: unknown; OC_NEWARK: unknown; OC_NEWARK: 48M7790; OC_FARNELL: 388191; OC_NEWARK: 14J7708; OC_FARNELL: 388221; OC_NEWARK: 17M1784; OC_NEWARK: 48M7792; OC_NEWARK: 48M7793
footprint RT-C/O12A3.5
part A pins: A1 1, A2 2
part B pins: 11 P, 12 O, 14 S

## RP?18*8
designator K?, comment Power PCB Relay RP II/1 SCHRACK   1 pole 8 / 12 A Source: http://www.schrack.com/.. 5834.pdf
MPN: RP818005; MPN: RP818006; MPN: RP818012; MPN: RP818024; MF: TYCO ELECTRONICS; OC_FARNELL: unknown; OC_NEWARK: 48M7838; OC_NEWARK: 08H3653; OC_FARNELL: 388270; OC_NEWARK: 52F974; OC_FARNELL: 388282; OC_NEWARK: 20C8802; OC_NEWARK: unknown
footprint RT-C/O12A3.5
part A pins: A1 1, A2 2
part B pins: 11 P, 12 O, 14 S

## RP?30*4
designator K?, comment Power PCB Relay RP II/1 SCHRACK   1 pole 8 / 12 A Source: http://www.schrack.com/.. 5834.pdf
OC_FARNELL: unknown; OC_NEWARK: unknown
footprint RT-N/O12A5
part A pins: A1 1, A2 2
part B pins: 11 P, 14 S

## RP?30*8
designator K?, comment Power PCB Relay RP II/1 SCHRACK   1 pole 8 / 12 A Source: http://www.schrack.com/.. 5834.pdf
OC_FARNELL: unknown; OC_NEWARK: unknown
footprint RT-N/O12A5
part A pins: A1 1, A2 2
part B pins: 11 P, 14 S

## RP?31*4
designator K?, comment Power PCB Relay RP II/1 SCHRACK   1 pole 8 / 12 A Source: http://www.schrack.com/.. 5834.pdf
MPN: 4-1393231-5; MF: TYCO ELECTRONICS; OC_FARNELL: unknown; OC_NEWARK: unknown; OC_NEWARK: 13H3096
footprint RT-N/O12A5
part A pins: A1 1, A2 2
part B pins: 11 P, 14 S

## RP?31*8
designator K?, comment Power PCB Relay RP II/1 SCHRACK   1 pole 8 / 12 A Source: http://www.schrack.com/.. 5834.pdf
OC_FARNELL: unknown; OC_NEWARK: unknown
footprint RT-N/O12A5
part A pins: A1 1, A2 2
part B pins: 11 P, 14 S

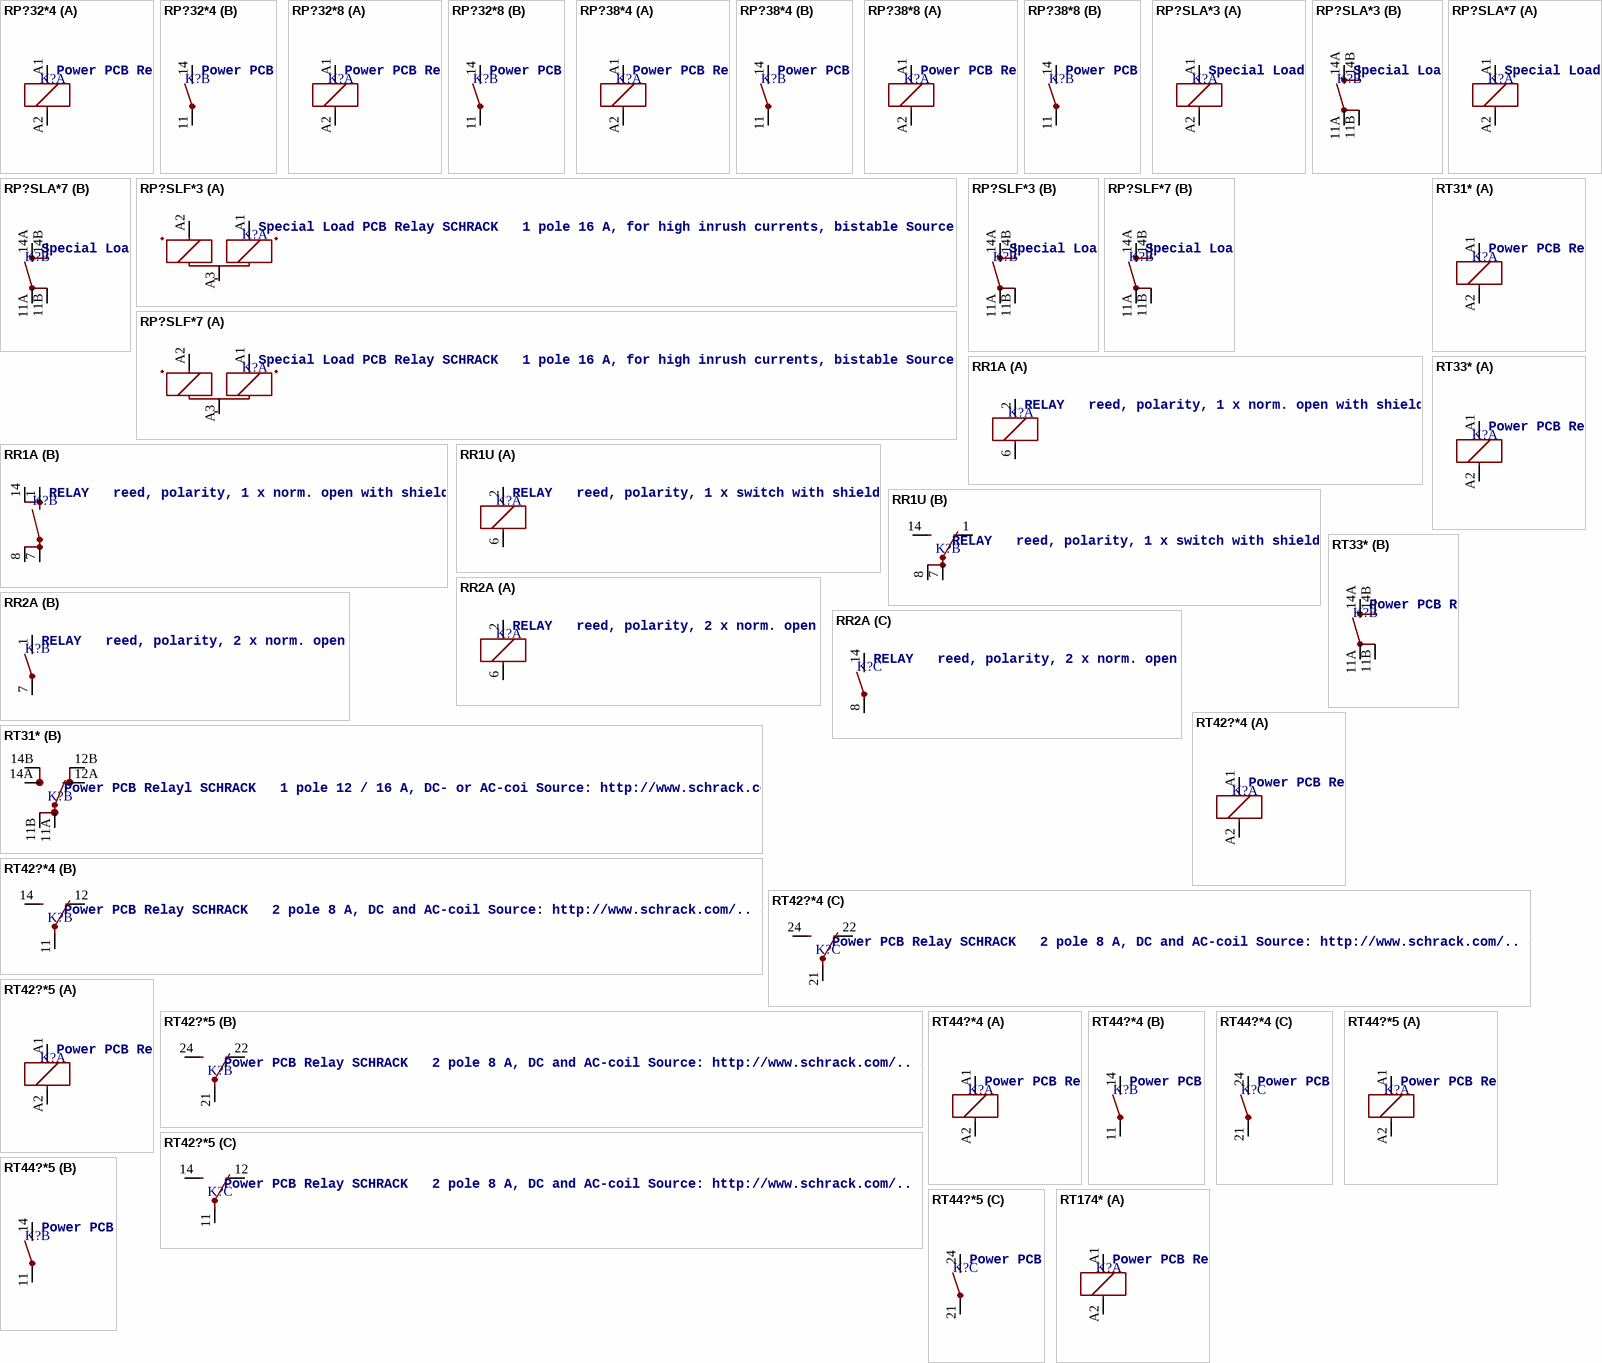
[diagram p24: symbols RP?32*4 to RT174*]

## RP?32*4
designator K?, comment Power PCB Relay RP II/1 SCHRACK   1 pole 8 / 12 A Source: http://www.schrack.com/.. 5834.pdf
MPN: RP432024; MF: TYCO ELECTRONICS; OC_FARNELL: unknown; OC_NEWARK: unknown; OC_NEWARK: 08H3615
footprint RT-N/O12A3.5
part A pins: A1 1, A2 2
part B pins: 11 P, 14 S

## RP?32*8
designator K?, comment Power PCB Relay RP II/1 SCHRACK   1 pole 8 / 12 A Source: http://www.schrack.com/.. 5834.pdf
MPN: 2-1393232-4; MF: TYCO ELECTRONICS; OC_FARNELL: unknown; OC_NEWARK: unknown; OC_NEWARK: 12H2332
footprint RT-N/O12A3.5
part A pins: A1 1, A2 2
part B pins: 11 P, 14 S

## RP?38*4
designator K?, comment Power PCB Relay RP II/1 SCHRACK   1 pole 8 / 12 A Source: http://www.schrack.com/.. 5834.pdf
MPN: 9-1393232-3; MPN: RP438024; MF: TYCO ELECTRONICS; OC_FARNELL: unknown; OC_NEWARK: unknown; OC_NEWARK: 16H8839; OC_NEWARK: 08H3617
footprint RT-N/O12A3.5
part A pins: A1 1, A2 2
part B pins: 11 P, 14 S

## RP?38*8
designator K?, comment Power PCB Relay RP II/1 SCHRACK   1 pole 8 / 12 A Source: http://www.schrack.com/.. 5834.pdf
MPN: RP838006; MPN: RP838012; MPN: RP838024; MF: TYCO ELECTRONICS; OC_FARNELL: unknown; OC_NEWARK: unknown; OC_NEWARK: 52F982; OC_NEWARK: 48M7858; OC_NEWARK: 52F984
footprint RT-N/O12A3.5
part A pins: A1 1, A2 2
part B pins: 11 P, 14 S

## RP?SLA*3
designator K?, comment Special Load PCB Relay SCHRACK   1 pole 16 A, for high inrush currents, monostable Source: http://www.schrack.com/.. 5837.pdf
MPN: RP3SLA05; MPN: RP3SLA12; MPN: RP3SLA24; MF: TYCO ELECTRONICS; OC_FARNELL: unknown; OC_NEWARK: 08H3553; OC_NEWARK: 08H3554; OC_NEWARK: 08H3555
footprint RP-SLA
part A pins: A1 1, A2 2
part B pins: 11A PA, 11B PB, 14A SA, 14B SB

## RP?SLA*7
designator K?, comment Special Load PCB Relay SCHRACK   1 pole 16 A, for high inrush currents, monostable Source: http://www.schrack.com/.. 5837.pdf
MPN: 6-1393231-4; MF: TYCO ELECTRONICS; OC_FARNELL: unknown; OC_NEWARK: unknown; OC_NEWARK: 16H0754
footprint RP-SLA
part A pins: A1 1, A2 2
part B pins: 11A PA, 11B PB, 14A SA, 14B SB

## RP?SLF*3
designator K?, comment Special Load PCB Relay SCHRACK   1 pole 16 A, for high inrush currents, bistable Source: http://www.schrack.com/.. 5837.pdf
MPN: RP3SLF12; MPN: RP3SLF24; MF: TYCO ELECTRONICS; OC_FARNELL: unknown; OC_NEWARK: 16R6258; OC_NEWARK: 08H3556
footprint RP-SLF
part A pins: A1 R+, A2 S+, A3 -
part B pins: 11A PA, 11B PB, 14A SA, 14B SB

## RP?SLF*7
designator K?, comment Special Load PCB Relay SCHRACK   1 pole 16 A, for high inrush currents, bistable Source: http://www.schrack.com/.. 5837.pdf
OC_FARNELL: unknown; OC_NEWARK: unknown
footprint RP-SLF
part A pins: A1 R+, A2 S+, A3 -
part B pins: 11A PA, 11B PB, 14A SA, 14B SB

## RR1A
designator K?, comment RELAY   reed, polarity, 1 x norm. open with shield
OC_FARNELL: unknown; OC_NEWARK: unknown
footprint RR1A
part A pins: 2 1, 6 2
part B pins: 1 S, 7 P, 8 P@1, 14 S@1

## RR1U
designator K?, comment RELAY   reed, polarity, 1 x switch with shield
OC_FARNELL: unknown; OC_NEWARK: unknown
footprint RR1U
part A pins: 2 1, 6 2
part B pins: 1 O, 7 P, 8 P@1, 14 S

## RR2A
designator K?, comment RELAY   reed, polarity, 2 x norm. open
OC_FARNELL: unknown; OC_NEWARK: unknown
footprint RR2A
part A pins: 2 1, 6 2
part B pins: 1 S, 7 P
part C pins: 8 P, 14 S

## RT31*
designator K?, comment Power PCB Relayl SCHRACK   1 pole 12 / 16 A, DC- or AC-coi Source: http://www.schrack.com/.. 5819.pdf
MPN: RT314005; MPN: RT314012; MPN: RT314024; MPN: RT314048; MPN: RT314060; MPN: RT314110; MPN: RT314524; MPN: RT314615; MPN: RT314730; MF: TYCO ELECTRONICS; OC_FARNELL: 1629043; OC_NEWARK: 03P2418; OC_FARNELL: unknown; OC_NEWARK: unknown; OC_FARNELL: 1629044; OC_NEWARK: 03P2419; OC_FARNELL: 1629045; OC_NEWARK: 36K2037; OC_FARNELL: 1629046; OC_NEWARK: 03P2421; OC_NEWARK: 16R6367; OC_NEWARK: 48M7956; OC_FARNELL: 1629047; OC_NEWARK: 03P2422; OC_FARNELL: 1629048; OC_NEWARK: 08H3745; OC_FARNELL: 1629051; OC_NEWARK: 03P2424
footprint RT-C/O16A5
part A pins: A1 1, A2 2
part B pins: 11A PA, 11B PB, 12A OA, 12B OB, 14A SA, 14B SB

## RT33*
designator K?, comment Power PCB Relay Inrush  SCHRACK   1 pole 16 A, for inrush peak currents up to 80 A Source: http://www.schrack.com/.. 5825.pdf
MPN: RT33K012; MPN: RT33K024; MPN: RT33K048; MPN: RT33L012; MPN: RT33L024; MPN: RT33L048; OC_FARNELL: unknown; OC_NEWARK: 48M7964; OC_NEWARK: 48M7965; OC_NEWARK: 16R6370; OC_NEWARK: unknown; OC_FARNELL: 1770614; OC_NEWARK: 74R4452; OC_FARNELL: 1770616; OC_NEWARK: 74R4453; OC_NEWARK: 16R6377
footprint RT-N/O16A5
part A pins: A1 1, A2 2
part B pins: 11A PA, 11B PB, 14A SA, 14B SB

## RT42?*4
designator K?, comment Power PCB Relay SCHRACK   2 pole 8 A, DC and AC-coil Source: http://www.schrack.com/.. 5842.pdf
MPN: RT424005; MPN: RT424006; MPN: RT424012; MPN: RT424024; MPN: RT424048; MPN: RT424110; MPN: RT424524; MPN: RT424615; MPN: RT424730; MF: TYCO ELECTRONICS; OC_FARNELL: 1629052; OC_NEWARK: 03P2425; OC_FARNELL: unknown; OC_NEWARK: 08H3752; OC_FARNELL: 1629053; OC_NEWARK: 03P2426; OC_FARNELL: 1629054; OC_NEWARK: 16F393; OC_FARNELL: 1629055; OC_NEWARK: 03P2428; OC_NEWARK: unknown; OC_NEWARK: 93B6583; OC_FARNELL: 1629056; OC_NEWARK: 94C4293; OC_FARNELL: 1629057; OC_NEWARK: 48F1292; OC_FARNELL: 1629058; OC_NEWARK: 85C0866
footprint RT2C/O
part A pins: A1 1, A2 2
part B pins: 11 P, 12 O, 14 S
part C pins: 21 P, 22 O, 24 S

## RT42?*5
designator K?, comment Power PCB Relay SCHRACK   2 pole 8 A, DC and AC-coil Source: http://www.schrack.com/.. 5842.pdf
MPN: 8-1393243-0; MPN: 8-1393243-2; MPN: 8-1393243-5; MPN: RT425524; MPN: RT425615; MPN: 9-1393243-3; MF: TYCO ELECTRONICS; OC_FARNELL: unknown; OC_NEWARK: 16H6457; OC_NEWARK: unknown; OC_NEWARK: 16H6458; OC_NEWARK: 16H6459; OC_NEWARK: 48M7992; OC_NEWARK: 48M7993; OC_NEWARK: 83H4419
footprint RT2C/O
part A pins: A1 1, A2 2
part B pins: 21 P, 22 O, 24 S
part C pins: 11 P, 12 O, 14 S

## RT44?*4
designator K?, comment Power PCB Relay SCHRACK   2 pole 8 A, DC and AC-coil Source: http://www.schrack.com/.. 5842.pdf
MPN: 9-1393243-5; MPN: RT444048; MPN: RT444524; MPN: RT444615; MF: TYCO ELECTRONICS; OC_FARNELL: unknown; OC_NEWARK: 16H8852; OC_NEWARK: unknown; OC_NEWARK: 48M7994; OC_NEWARK: 16R6383; OC_NEWARK: 08H3757
footprint RT2N/O
part A pins: A1 1, A2 2
part B pins: 11 P, 14 S
part C pins: 21 P, 24 S

## RT44?*5
designator K?, comment Power PCB Relay SCHRACK   2 pole 8 A, DC and AC-coil Source: http://www.schrack.com/.. 5842.pdf
OC_FARNELL: unknown; OC_NEWARK: unknown
footprint RT2N/O
part A pins: A1 1, A2 2
part B pins: 11 P, 14 S
part C pins: 21 P, 24 S

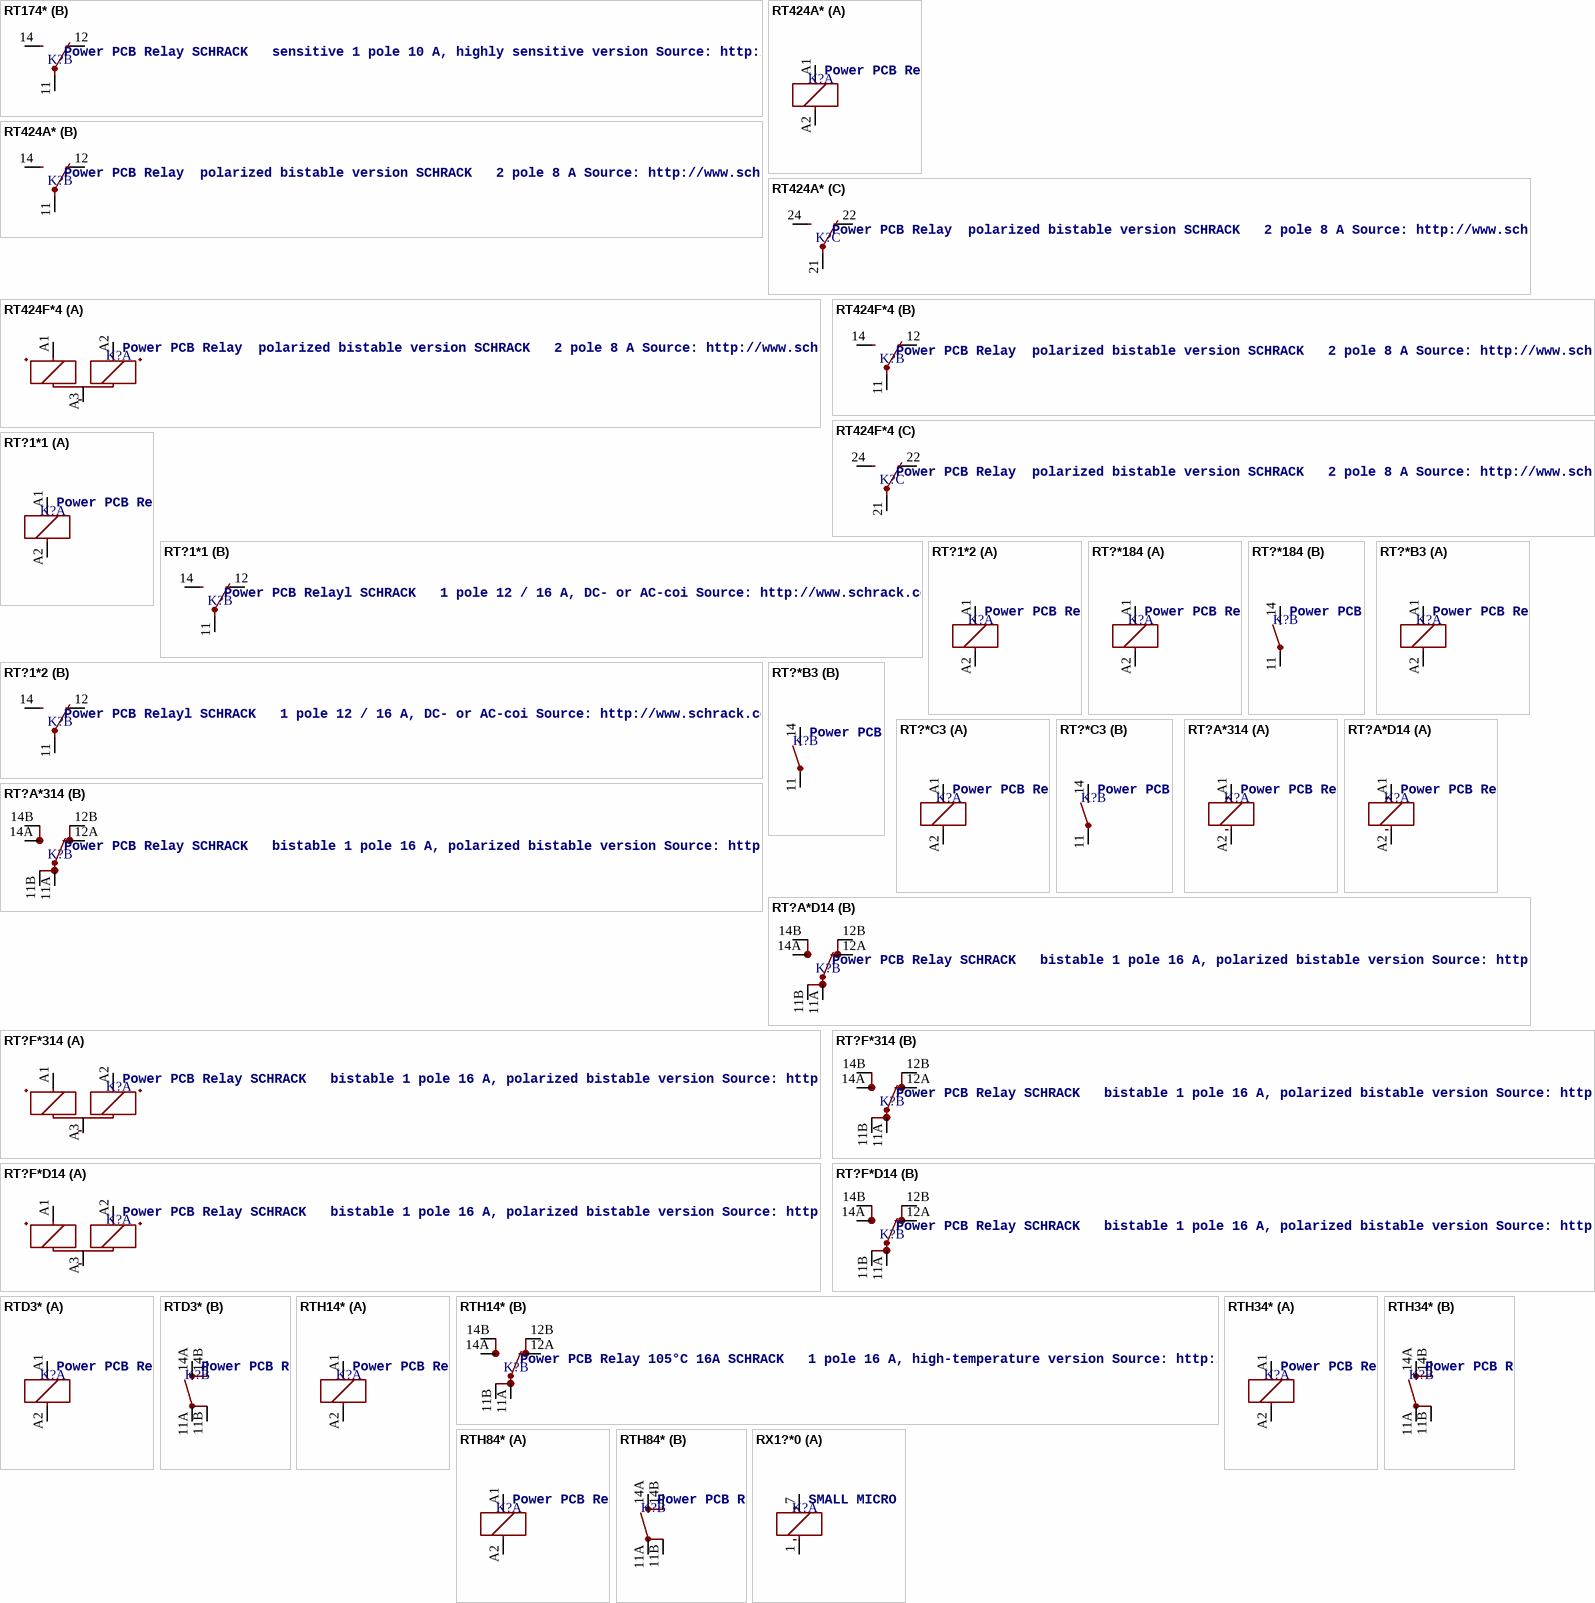
[diagram p25: symbols RT174* to RX1?*0]

## RT174*
designator K?, comment Power PCB Relay SCHRACK   sensitive 1 pole 10 A, highly sensitive version Source: http://www.schrack.com/.. 5822.pdf
MPN: RT174005; MPN: RT174012; MPN: RT174024; MF: TYCO ELECTRONICS; OC_FARNELL: unknown; OC_NEWARK: 48M7931; OC_NEWARK: unknown; OC_NEWARK: 08H3728; OC_NEWARK: 08H3729
footprint RT-C/O12A3.5
part A pins: A1 1, A2 2
part B pins: 11 P, 12 O, 14 S

## RT424A*
designator K?, comment Power PCB Relay  polarized bistable version SCHRACK   2 pole 8 A Source: http://www.schrack.com/.. 5843.pdf
MPN: RT424A05; MPN: RT424A06; MPN: RT424A12; MPN: RT424A24; OC_FARNELL: unknown; OC_NEWARK: 48M7975; OC_NEWARK: 48M7976; OC_NEWARK: 48M7977; OC_NEWARK: 48M7978
footprint RT2C/O
part A pins: A1 1, A2 2
part B pins: 11 P, 12 O, 14 S
part C pins: 21 P, 22 O, 24 S

## RT424F*4
designator K?, comment Power PCB Relay  polarized bistable version SCHRACK   2 pole 8 A Source: http://www.schrack.com/.. 5843.pdf
OC_FARNELL: unknown; OC_NEWARK: unknown
footprint RT424
part A pins: A1 S+, A2 R+, A3 -
part B pins: 11 P, 12 O, 14 S
part C pins: 21 P, 22 O, 24 S

## RT?1*1
designator K?, comment Power PCB Relayl SCHRACK   1 pole 12 / 16 A, DC- or AC-coi Source: http://www.schrack.com/.. 5819.pdf
MPN: RT114005; MPN: RT114006; MPN: RT114012; MPN: RT114024; MPN: RT114048; MPN: RT114060; MPN: RT114110; MPN: RT114524; MPN: RT114615; MPN: RT114730; MF: TYCO ELECTRONICS; OC_FARNELL: 1629035; OC_NEWARK: 03P2411; OC_FARNELL: unknown; OC_NEWARK: 07H3171; OC_FARNELL: 1629036; OC_NEWARK: 03P2412; OC_FARNELL: 1629038; OC_NEWARK: 03P2413; OC_NEWARK: 08H3723; OC_NEWARK: 16R6359; OC_NEWARK: 08H3725; OC_FARNELL: 1629040; OC_NEWARK: 03P2415; OC_FARNELL: 1629041; OC_NEWARK: 03P2416; OC_FARNELL: 1629042; OC_NEWARK: 03P2417
footprint RT-C/O12A3.5
part A pins: A1 1, A2 2
part B pins: 11 P, 12 O, 14 S

## RT?1*2
designator K?, comment Power PCB Relayl SCHRACK   1 pole 12 / 16 A, DC- or AC-coi Source: http://www.schrack.com/.. 5819.pdf
MPN: RT214006; MPN: RT214012; MPN: RT214024; MPN: RT214048; MPN: RT214110; MPN: RT214524; MPN: RT214615; MPN: RT214730; MF: TYCO ELECTRONICS; OC_FARNELL: unknown; OC_NEWARK: unknown; OC_NEWARK: 08H3734; OC_NEWARK: 48M7937; OC_NEWARK: 08H3735; OC_NEWARK: 16R6362; OC_NEWARK: 16R6363; OC_NEWARK: 50H8104; OC_NEWARK: 93B6578; OC_NEWARK: 08H3736
footprint RT-C/O12A5
part A pins: A1 1, A2 2
part B pins: 11 P, 12 O, 14 S

## RT?*184
designator K?, comment Power PCB Relay SCHRACK   1 pole 12 / 16 A, DC- or AC-coil Source: http://www.schrack.com/.. 5819.pdf
MPN: RT184005; MPN: RT184012; MPN: RT184024; MF: TYCO ELECTRONICS; OC_FARNELL: unknown; OC_NEWARK: 08H3730; OC_NEWARK: unknown; OC_NEWARK: 08H3731; OC_NEWARK: 08H3733
footprint RT-N/O12A3.5
part A pins: A1 1, A2 2
part B pins: 11 P, 14 S

## RT?*B3
designator K?, comment Power PCB Relay SCHRACK   1 pole 12 / 16 A, DC- or AC-coil Source: http://www.schrack.com/.. 5819.pdf
MPN: RTB34005F; MPN: RTB34012; MPN: RTB34024F; MPN: RTB34730; MF: TYCO ELECTRONICS; OC_FARNELL: unknown; OC_NEWARK: 08H3696; OC_NEWARK: unknown; OC_FARNELL: 9865071; OC_NEWARK: 48M7873; OC_NEWARK: 35K3224; OC_NEWARK: 48M7874
footprint RT-N/O12A3.5
part A pins: A1 1, A2 2
part B pins: 11 P, 14 S

## RT?*C3
designator K?, comment Power PCB Relay SCHRACK   1 pole 12 / 16 A, DC- or AC-coil Source: http://www.schrack.com/.. 5819.pdf
OC_FARNELL: unknown; OC_NEWARK: unknown
footprint RT-N/O12A5
part A pins: A1 1, A2 2
part B pins: 11 P, 14 S

## RT?A*314
designator K?, comment Power PCB Relay SCHRACK   bistable 1 pole 16 A, polarized bistable version Source: http://www.schrack.com/.. 5821.pdf
MPN: RT314A06; MPN: RT314A12; MPN: RT314A24; MF: TYCO ELECTRONICS; OC_FARNELL: unknown; OC_NEWARK: 48M7945; OC_NEWARK: 08H3738; OC_NEWARK: 08H3739
footprint RT1-BI
part A pins: A1 +, A2 -
part B pins: 11A PA, 11B PB, 12A OA, 12B OB, 14A SA, 14B SB

## RT?A*D14
designator K?, comment Power PCB Relay SCHRACK   bistable 1 pole 16 A, polarized bistable version Source: http://www.schrack.com/.. 5821.pdf
OC_FARNELL: unknown; OC_NEWARK: unknown
footprint RT1-BI
part A pins: A1 +, A2 -
part B pins: 11A PA, 11B PB, 12A OA, 12B OB, 14A SA, 14B SB

## RT?F*314
designator K?, comment Power PCB Relay SCHRACK   bistable 1 pole 16 A, polarized bistable version Source: http://www.schrack.com/.. 5821.pdf
MPN: RT314F05; MPN: RT314F12; MPN: RT314F24; OC_FARNELL: unknown; OC_NEWARK: 48M7949; OC_NEWARK: unknown; OC_NEWARK: 26M2701; OC_FARNELL: 1175084; OC_NEWARK: 31M5918
footprint RT1-BI
part A pins: A1 S+, A2 R+, A3 -
part B pins: 11A PA, 11B PB, 12A OA, 12B OB, 14A SA, 14B SB

## RT?F*D14
designator K?, comment Power PCB Relay SCHRACK   bistable 1 pole 16 A, polarized bistable version Source: http://www.schrack.com/.. 5821.pdf
OC_FARNELL: unknown; OC_NEWARK: unknown
footprint RT1-BI
part A pins: A1 S+, A2 R+, A3 -
part B pins: 11A PA, 11B PB, 12A OA, 12B OB, 14A SA, 14B SB

## RTD3*
designator K?, comment Power PCB Relay SCHRACK   1 pole 12 / 16 A, DC- or AC-coil Source: http://www.schrack.com/.. 5819.pdf
MPN: RTD34005; MPN: RTD34012F; MPN: RTD34024F; MPN: RTD34048; MPN: RTD34615; MPN: RTD34730; MF: TYCO ELECTRONICS; OC_FARNELL: unknown; OC_NEWARK: 93B4654; OC_NEWARK: unknown; OC_NEWARK: 36K3470; OC_FARNELL: 9850961; OC_NEWARK: 34K0187; OC_NEWARK: 08H3709; OC_NEWARK: 48F1293; OC_NEWARK: 85C1167
footprint RT-N/O16A5
part A pins: A1 1, A2 2
part B pins: 11A PA, 11B PB, 14A SA, 14B SB

## RTH14*
designator K?, comment Power PCB Relay 105°C 16A SCHRACK   1 pole 16 A, high-temperature version Source: http://www.schrack.com/.. 5831.pdf
MPN: RTH14012; MPN: 7-1415025-1; MF: TYCO ELECTRONICS; OC_FARNELL: unknown; OC_NEWARK: unknown; OC_FARNELL: 1629018; OC_NEWARK: 03P2408; OC_NEWARK: 16H4440
footprint RT-C/O16A5
part A pins: A1 1, A2 2
part B pins: 11A PA, 11B PB, 12A OA, 12B OB, 14A SA, 14B SB

## RTH34*
designator K?, comment Power PCB Relay 105°C 16A SCHRACK   1 pole 16 A, high-temperature version Source: http://www.schrack.com/.. 5831.pdf
MPN: RTH34012; MPN: RTH34024; OC_FARNELL: unknown; OC_NEWARK: unknown; OC_NEWARK: 45K1533; OC_NEWARK: 45K1534
footprint RT-N/O16A5
part A pins: A1 1, A2 2
part B pins: 11A PA, 11B PB, 14A SA, 14B SB

## RTH84*
designator K?, comment Power PCB Relay 105°C sensitive SCHRACK   1 pole 10 A, high-temperature version Source: http://www.schrack.com/.. 5828.pdf
OC_FARNELL: unknown; OC_NEWARK: unknown
footprint RT-N/O16A5
part A pins: A1 1, A2 2
part B pins: 11A PA, 11B PB, 14A SA, 14B SB

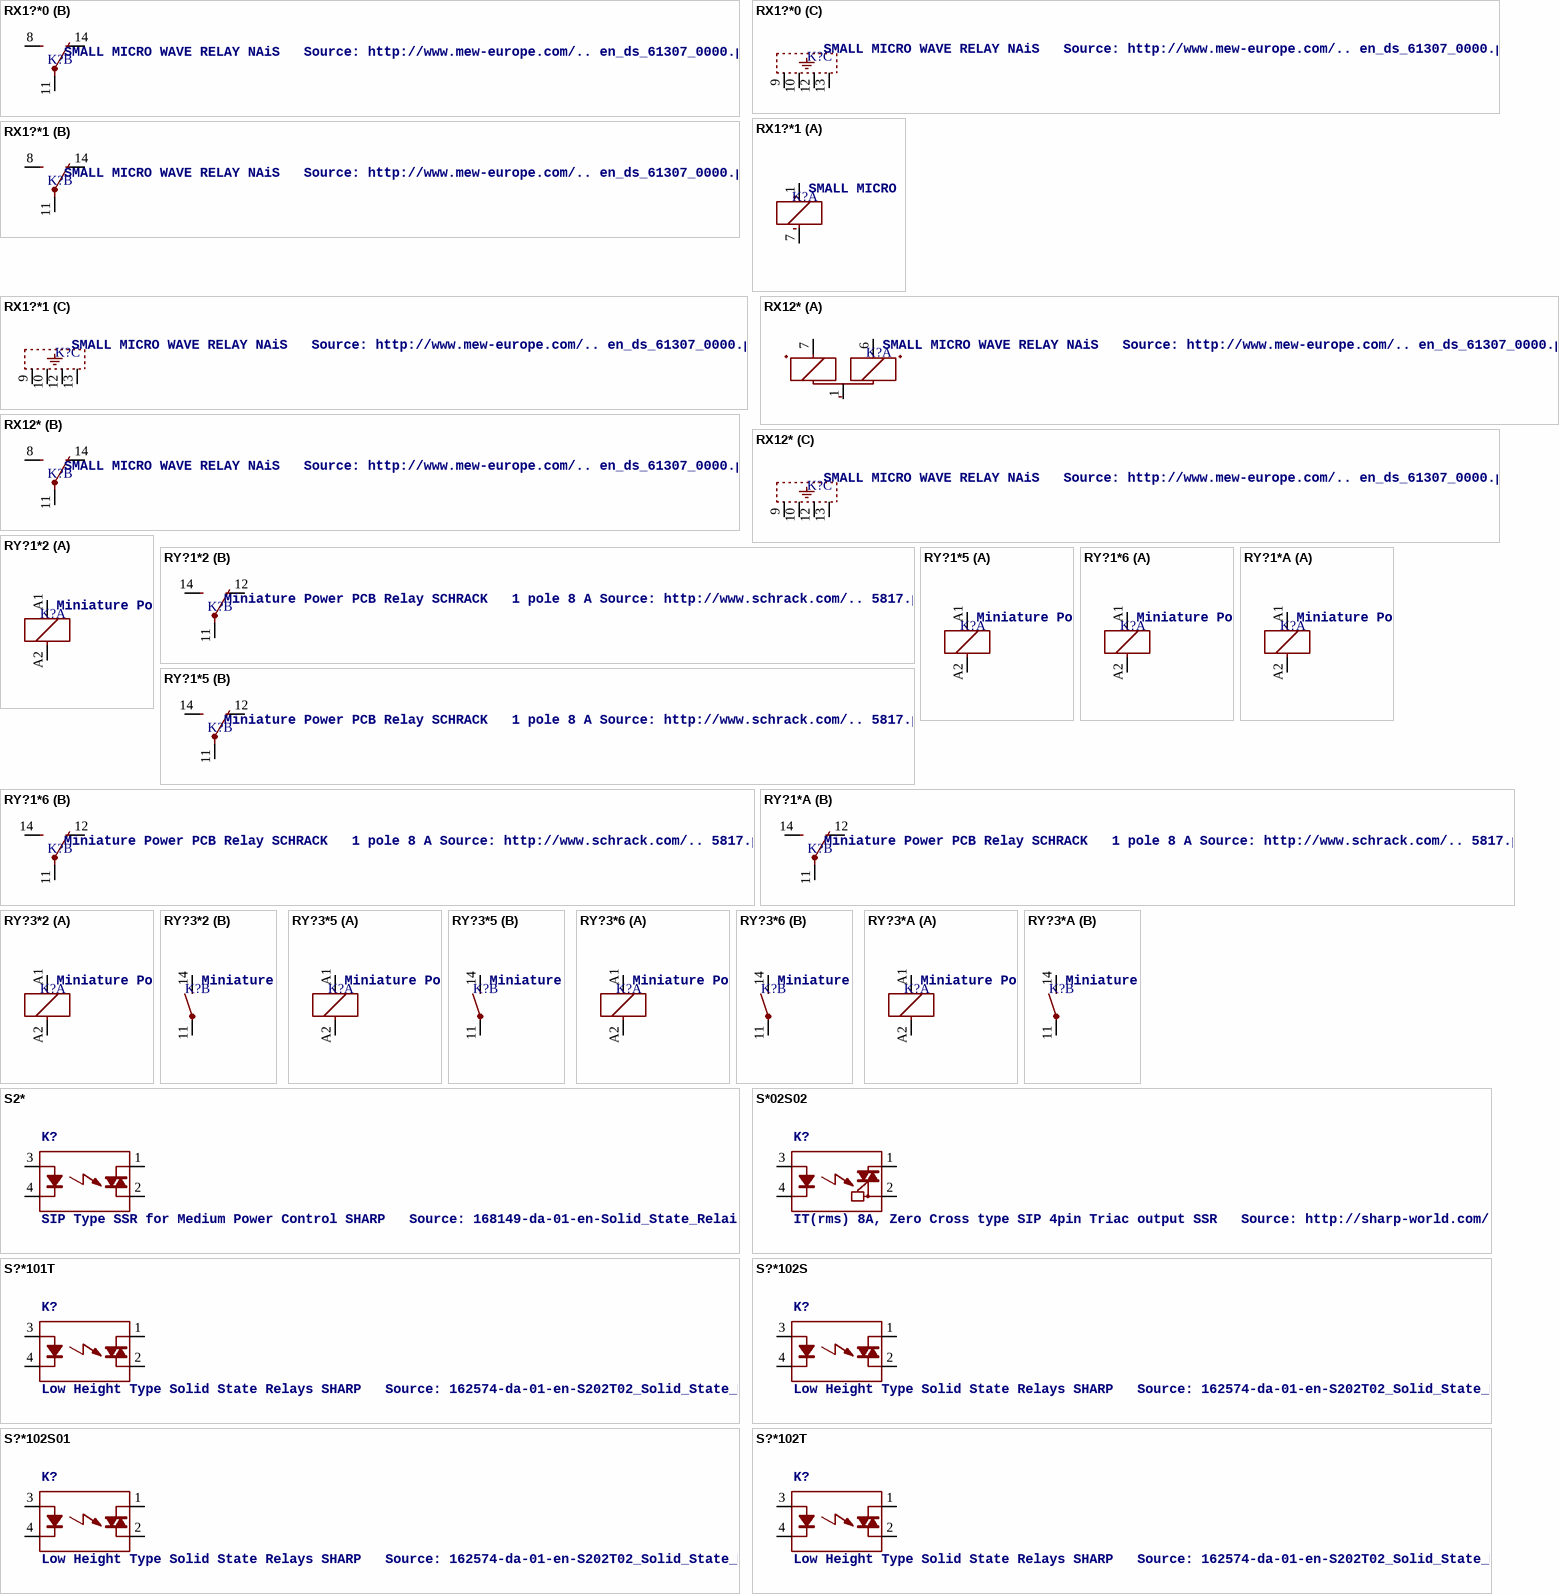
[diagram p26: symbols RX1?*0 to S?*102T]